# Altium integrated library Lattice FPGA EC.IntLib: 200 symbols (part 26 of 28)
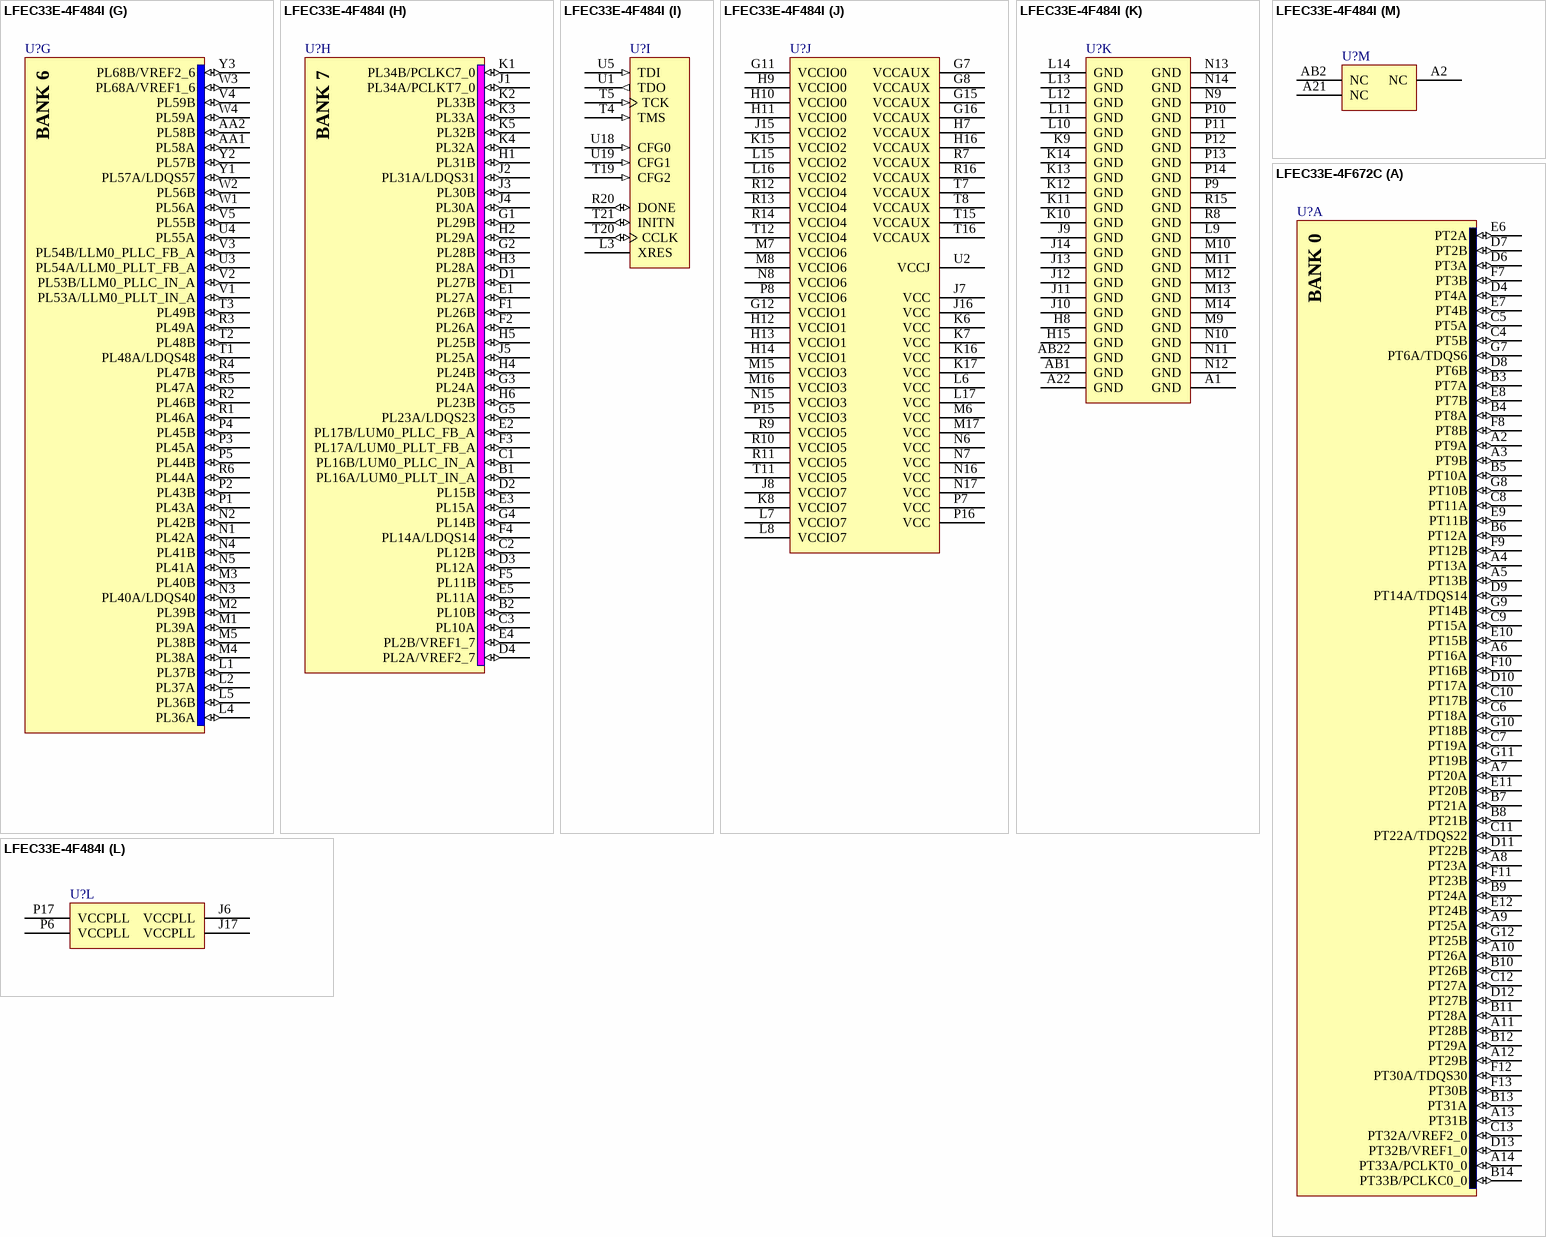
[diagram p255: symbols LFEC33E-4F484I to LFEC33E-4F672C]

## LFEC33E-4F484I
designator U?
EC 1.2V FPGA, 360 I/Os, 4 PLLs, 32.8K LUTs, 484-Pin fpBGA, Speed Grade 4, Industrial Grade; DatasheetVersion: ver2.2, Mar-2006; PackageVersion: ver02.8, Jul-2011; PackageReference: fpBGA484; PackageDescription: 484-Ball Fine Pitch Ball Grid Array (fpBGA484); Code_IPC: BGA100P22X22-484; ComponentLink1Description: Manufacturer URL; ComponentLink1URL: http://www.latticesemi.com/; ComponentLink2Description: Datasheet; ComponentLink2URL: http://www.latticesemi.com/lit/docs/datasheets/fpga/ecp_ec_datasheet.pdf; ComponentLink3Description: Package Specification; ComponentLink3URL: http://www.latticesemi.com/lit/docs/package/pkg.pdf
footprint fpBGA484 (BGA, 484-Leads, Body 23x23mm, Pitch 1mm)
part A pins: A3 PT13B (io), A4 PT17B (io), A5 PT25B (io), A6 PT27A (io), A7 PT27B (io), A8 PT29A (io), A9 PT29B (io), A10 PT33A/PCLKT0_0 (io), A11 PT33B/PCLKC0_0 (io), B3 PT13A (io), B4 PT17A (io), B5 PT15A (io), B6 PT25A (io), B7 PT26B (io), B8 PT26A (io), B9 PT30B (io), B10 PT30A/TDQS30 (io), B11 PT31B (io), C4 PT16B (io), C5 PT16A (io), C6 PT14A/TDQS14 (io), C7 PT18A (io), C8 PT21A (io), C9 PT21B (io), C10 PT28A (io), C11 PT31A (io), D5 PT12A (io), D6 PT15B (io), D7 PT19A (io), D8 PT18B (io), D9 PT20A (io), D10 PT23A (io), D11 PT28B (io), E6 PT14B (io), E7 PT10A (io), E8 PT11A (io), E9 PT22A/TDQS22 (io), E10 PT24A (io), E11 PT32A/VREF2_0 (io), E12 PT32B/VREF1_0 (io), F6 PT12B (io), F7 PT11B (io), F8 PT19B (io), F9 PT20B (io), F10 PT23B (io), G6 PT10B (io), G9 PT22B (io), G10 PT24B (io)
part B pins: A12 PT37B (io), A13 PT41B (io), A14 PT45A (io), A15 PT45B (io), A16 PT46A/TDQS46 (io), A17 PT47A (io), A18 PT48A (io), A19 PT49A (io), A20 PT53A (io), B12 PT37A (io), B13 PT41A (io), B14 PT42A (io), B15 PT46B (io), B16 PT47B (io), B17 PT48B (io), B18 PT49B (io), B19 PT53B (io), B20 PT55A (io), C12 PT34A (io), C13 PT40A (io), C14 PT42B (io), C15 PT43A (io), C16 PT54A/TDQS54 (io), C17 PT52A (io), C18 PT56A (io), C19 PT55B (io), D12 PT35A/VREF1_1 (io), D13 PT36A (io), D14 PT39A (io), D15 PT43B (io), D16 PT50A (io), D17 PT54B (io), D18 PT56B (io), E13 PT38B (io), E14 PT40B (io), E15 PT44A (io), E16 PT51A (io), E17 PT52B (io), F11 PT34B (io), F12 PT35B/VREF2_1 (io), F13 PT36B (io), F14 PT39B (io), F15 PT50B (io), F16 PT51B (io), F17 PT57A (io), G13 PT38A/TDQS38 (io), G14 PT44B (io), G17 PT57B (io)
part C pins: B21 PR11A (io), B22 PR11B (io), C20 PR13A (io), C21 PR13B (io), C22 PR17A/RUM0_PLLT_FB_A (io), D19 PR2A/VREF2_2 (io), D20 PR14A/RDQS14 (io), D21 PR17B/RUM0_PLLC_FB_A (io), D22 PR27A (io), E18 PR12A (io), E19 PR2B/VREF1_2 (io), E20 PR14B (io), E21 PR27B (io), E22 PR28A (io), F18 PR12B (io), F19 PR15A (io), F20 PR15B (io), F21 PR28B (io), F22 PR29A (io), G18 PR16A/RUM0_PLLT_IN_A (io), G19 PR16B/RUM0_PLLC_IN_A (io), G20 PR26A (io), G21 PR26B (io), G22 PR29B (io), H17 PR23B (io), H18 PR23A/RDQS23 (io), H19 PR25A (io), H20 PR24A (io), H21 PR33A (io), H22 PR33B (io), J18 PR25B (io), J19 PR24B (io), J20 PR31A/RDQS31 (io), J21 PR34A/PCLKT2_0 (io), J22 PR34B/PCLKC2_0 (io), K18 PR30A (io), K19 PR30B (io), K20 PR31B (io), L18 PR32A (io), L19 PR32B (io)
part D pins: AA21 PR59B (io), AA22 PR57A/RDQS57 (io), AB21 PR59A (io), K21 PR36A (io), K22 PR36B (io), L20 PR40A/RDQS40 (io), L21 PR39B (io), L22 PR37A (io), M18 PR38B (io), M19 PR38A (io), M20 PR39A (io), M21 PR40B (io), M22 PR37B (io), N18 PR41A (io), N19 PR41B (io), N20 PR45A (io), N21 PR42B (io), N22 PR42A (io), P18 PR44A (io), P19 PR44B (io), P20 PR45B (io), P21 PR43B (io), P22 PR43A (io), R17 PR49A (io), R18 PR48A/RDQS48 (io), R19 PR48B (io), R21 PR46B (io), R22 PR46A (io), T18 PR49B (io), T22 PR47A (io), U20 PR56A/RLM0_PLLT_IN_A (io), U21 PR53B/BUSY/SISPI (io), U22 PR47B (io), V18 PROGRAMN (in), V19 PR58A (io), V20 PR56B/RLM0_PLLC_IN_A (io), V21 PR54B/DI/CSSPIN (io), V22 PR53A/D7/SPID0 (io), W19 PR58B (io), W20 PR68B/VREF2_3 (io), W21 PR55B/RLM0_PLLC_FB_A (io), W22 PR54A/DOUT/CSON (io), Y20 PR68A/VREF1_3 (io), Y21 PR57B (io), Y22 PR55A/RLM0_PLLT_FB_A (io)
part E pins: AA12 PB37A/D2/SPID5 (io), AA13 PB41A (io), AA14 PB42A (io), AA15 PB46B (io), AA16 PB47B (io), AA17 PB48B (io), AA18 PB49B (io), AA19 PB53B (io), AA20 PB55A (io), AB12 PB37B/D1/SPID6 (io), AB13 PB41B/D6/SPID1 (io), AB14 PB45A (io), AB15 PB45B (io), AB16 PB46A/BDQS46 (io), AB17 PB47A (io), AB18 PB48A (io), AB19 PB49A (io), AB20 PB53A (io), T13 PB38A/BDQS38 (io), T14 PB44B (io), T17 PB57A (io), U11 PB34B/CS1N (io), U12 PB35B/CSN (io), U13 PB36B/D0/SPID7 (io), U14 PB39B/D4/SPID3 (io), U15 PB50B (io), U16 PB51B (io), U17 PB57B (io), V13 PB38B/D3/SPID4 (io), V14 PB40B/D5/SPID2 (io), V15 PB44A (io), V16 PB51A (io), V17 PB52B (io), W12 PB35A/VREF1_4 (io), W13 PB36A/VREF2_4 (io), W14 PB39A (io), W15 PB43B (io), W16 PB50A (io), W17 PB54B (io), W18 PB56B (io), Y12 PB34A/WRITEN (io), Y13 PB40A (io), Y14 PB42B (io), Y15 PB43A (io), Y16 PB54A/BDQS54 (io), Y17 PB52A (io), Y18 PB56A (io), Y19 PB55B (io)
part F pins: AA3 PB13A (io), AA4 PB17A (io), AA5 PB15A (io), AA6 PB25A (io), AA7 PB26B (io), AA8 PB26A (io), AA9 PB30B (io), AA10 PB30A/BDQS30 (io), AA11 PB31B (io), AB3 PB13B (io), AB4 PB17B (io), AB5 PB25B (io), AB6 PB27A (io), AB7 PB27B (io), AB8 PB29A (io), AB9 PB29B (io), AB10 PB33A/PCLKT5_0 (io), AB11 PB33B/PCLKC5_0 (io), T6 PB10B (io), T9 PB22B (io), T10 PB24B (io), U6 PB12B (io), U7 PB11B (io), U8 PB19B (io), U9 PB20B (io), U10 PB23B (io), V6 PB14B (io), V7 PB10A (io), V8 PB11A (io), V9 PB22A/BDQS22 (io), V10 PB24A (io), V11 PB32A/VREF2_5 (io), V12 PB32B/VREF1_5 (io), W5 PB12A (io), W6 PB15B (io), W7 PB19A (io), W8 PB18B (io), W9 PB20A (io), W10 PB23A (io), W11 PB28B (io), Y4 PB16B (io), Y5 PB16A (io), Y6 PB14A/BDQS14 (io), Y7 PB18A (io), Y8 PB21A (io), Y9 PB21B (io), Y10 PB28A (io), Y11 PB31A (io)
part G pins: AA1 PL58A (io), AA2 PL58B (io), L1 PL37B (io), L2 PL37A (io), L4 PL36A (io), L5 PL36B (io), M1 PL39A (io), M2 PL39B (io), M3 PL40B (io), M4 PL38A (io), M5 PL38B (io), N1 PL42A (io), N2 PL42B (io), N3 PL40A/LDQS40 (io), N4 PL41B (io), N5 PL41A (io), P1 PL43A (io), P2 PL43B (io), P3 PL45A (io), P4 PL45B (io), P5 PL44B (io), R1 PL46A (io), R2 PL46B (io), R3 PL49A (io), R4 PL47B (io), R5 PL47A (io), R6 PL44A (io), T1 PL48A/LDQS48 (io), T2 PL48B (io), T3 PL49B (io), U3 PL54A/LLM0_PLLT_FB_A (io), U4 PL55A (io), V1 PL53A/LLM0_PLLT_IN_A (io), V2 PL53B/LLM0_PLLC_IN_A (io), V3 PL54B/LLM0_PLLC_FB_A (io), V4 PL59B (io), V5 PL55B (io), W1 PL56A (io), W2 PL56B (io), W3 PL68A/VREF1_6 (io), W4 PL59A (io), Y1 PL57A/LDQS57 (io), Y2 PL57B (io), Y3 PL68B/VREF2_6 (io)
part H pins: B1 PL16A/LUM0_PLLT_IN_A (io), B2 PL10B (io), C1 PL16B/LUM0_PLLC_IN_A (io), C2 PL12B (io), C3 PL10A (io), D1 PL27B (io), D2 PL15B (io), D3 PL12A (io), D4 PL2A/VREF2_7 (io), E1 PL27A (io), E2 PL17B/LUM0_PLLC_FB_A (io), E3 PL15A (io), E4 PL2B/VREF1_7 (io), E5 PL11A (io), F1 PL26B (io), F2 PL26A (io), F3 PL17A/LUM0_PLLT_FB_A (io), F4 PL14A/LDQS14 (io), F5 PL11B (io), G1 PL29B (io), G2 PL28B (io), G3 PL24A (io), G4 PL14B (io), G5 PL23A/LDQS23 (io), H1 PL31B (io), H2 PL29A (io), H3 PL28A (io), H4 PL24B (io), H5 PL25B (io), H6 PL23B (io), J1 PL34A/PCLKT7_0 (io), J2 PL31A/LDQS31 (io), J3 PL30B (io), J4 PL30A (io), J5 PL25A (io), K1 PL34B/PCLKC7_0 (io), K2 PL33B (io), K3 PL33A (io), K4 PL32A (io), K5 PL32B (io)
part I pins: L3 XRES, R20 DONE (io), T4 TMS (in), T5 TCK (in), T19 CFG2 (in), T20 CCLK (io), T21 INITN (io), U1 TDO (out), U5 TDI (in), U18 CFG0 (in), U19 CFG1 (in)
part J pins: G7 VCCAUX (power), G8 VCCAUX (power), G11 VCCIO0 (power), G12 VCCIO1 (power), G15 VCCAUX (power), G16 VCCAUX (power), H7 VCCAUX (power), H9 VCCIO0 (power), H10 VCCIO0 (power), H11 VCCIO0 (power), H12 VCCIO1 (power), H13 VCCIO1 (power), H14 VCCIO1 (power), H16 VCCAUX (power), J7 VCC (power), J8 VCCIO7 (power), J15 VCCIO2 (power), J16 VCC (power), K6 VCC (power), K7 VCC (power), K8 VCCIO7 (power), K15 VCCIO2 (power), K16 VCC (power), K17 VCC (power), L6 VCC (power), L7 VCCIO7 (power), L8 VCCIO7 (power), L15 VCCIO2 (power), L16 VCCIO2 (power), L17 VCC (power), M6 VCC (power), M7 VCCIO6 (power), M8 VCCIO6 (power), M15 VCCIO3 (power), M16 VCCIO3 (power), M17 VCC (power), N6 VCC (power), N7 VCC (power), N8 VCCIO6 (power), N15 VCCIO3 (power), N16 VCC (power), N17 VCC (power), P7 VCC (power), P8 VCCIO6 (power), P15 VCCIO3 (power), P16 VCC (power), R7 VCCAUX (power), R9 VCCIO5 (power), R10 VCCIO5 (power), R11 VCCIO5 (power), R12 VCCIO4 (power), R13 VCCIO4 (power), R14 VCCIO4 (power), R16 VCCAUX (power), T7 VCCAUX (power), T8 VCCAUX (power), T11 VCCIO5 (power), T12 VCCIO4 (power), T15 VCCAUX (power), T16 VCCAUX (power), U2 VCCJ (power)
part K pins: A1 GND (power), A22 GND (power), AB1 GND (power), AB22 GND (power), H8 GND (power), H15 GND (power), J9 GND (power), J10 GND (power), J11 GND (power), J12 GND (power), J13 GND (power), J14 GND (power), K9 GND (power), K10 GND (power), K11 GND (power), K12 GND (power), K13 GND (power), K14 GND (power), L9 GND (power), L10 GND (power), L11 GND (power), L12 GND (power), L13 GND (power), L14 GND (power), M9 GND (power), M10 GND (power), M11 GND (power), M12 GND (power), M13 GND (power), M14 GND (power), N9 GND (power), N10 GND (power), N11 GND (power), N12 GND (power), N13 GND (power), N14 GND (power), P9 GND (power), P10 GND (power), P11 GND (power), P12 GND (power), P13 GND (power), P14 GND (power), R8 GND (power), R15 GND (power)
part L pins: J6 VCCPLL (power), J17 VCCPLL (power), P6 VCCPLL (power), P17 VCCPLL (power)
part M pins: A2 NC, A21 NC, AB2 NC
part A text: BANK 0
part B text: BANK 1
part C text: BANK 2
part D text: BANK 3
part E text: BANK 4
part F text: BANK 5
part G text: BANK 6
part H text: BANK 7

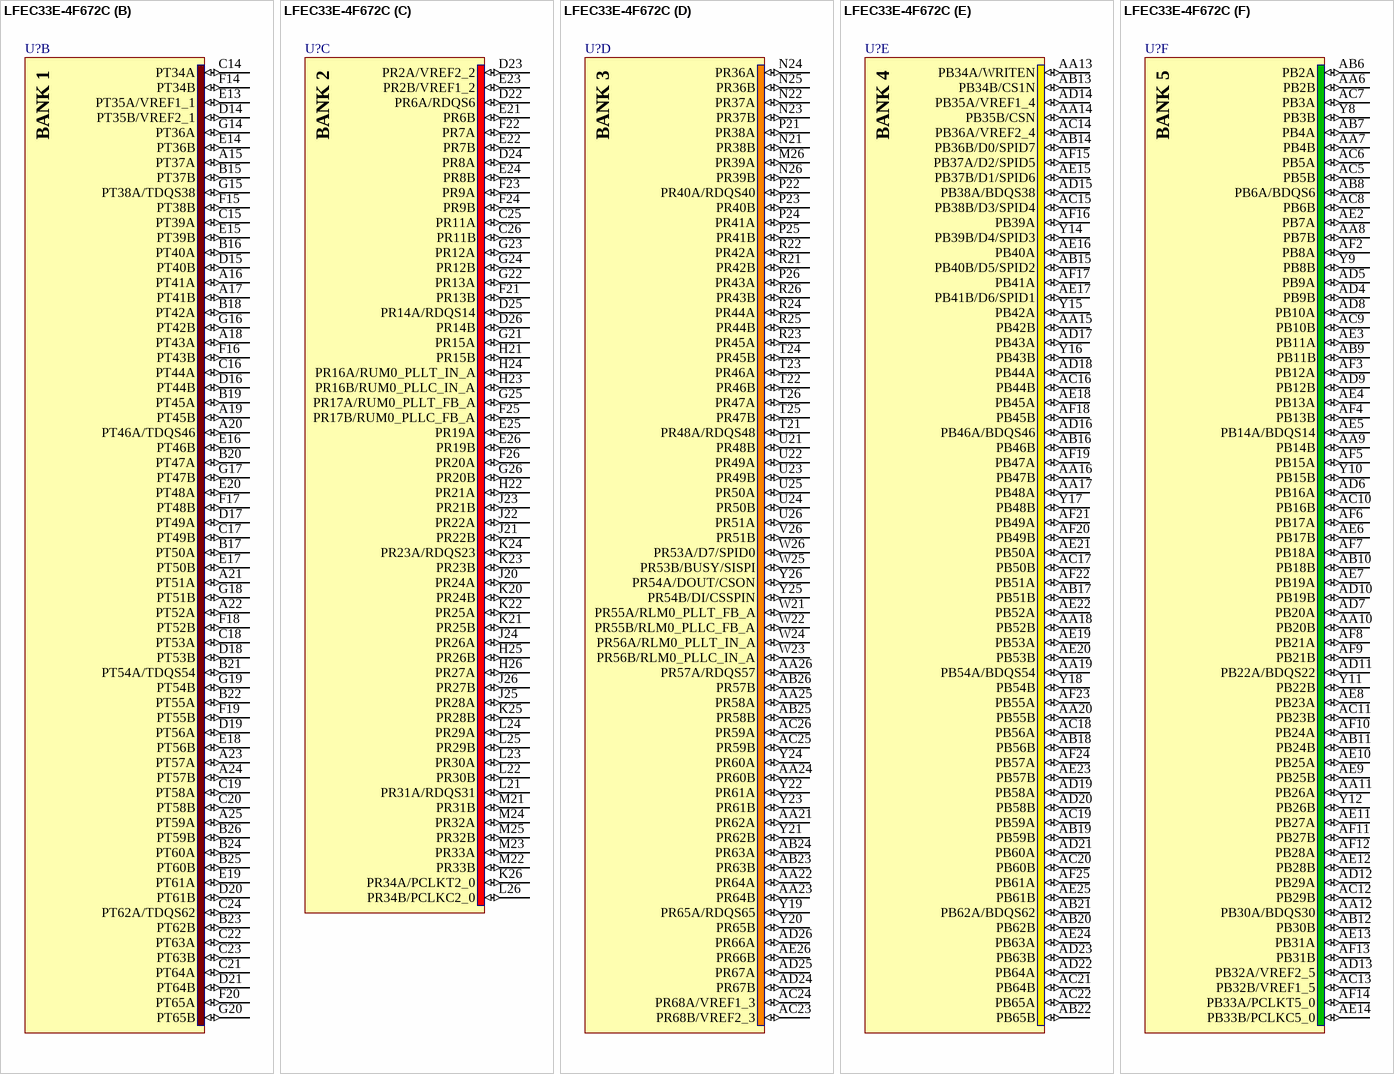
[diagram p211: symbol LFEC33E-4F672C]

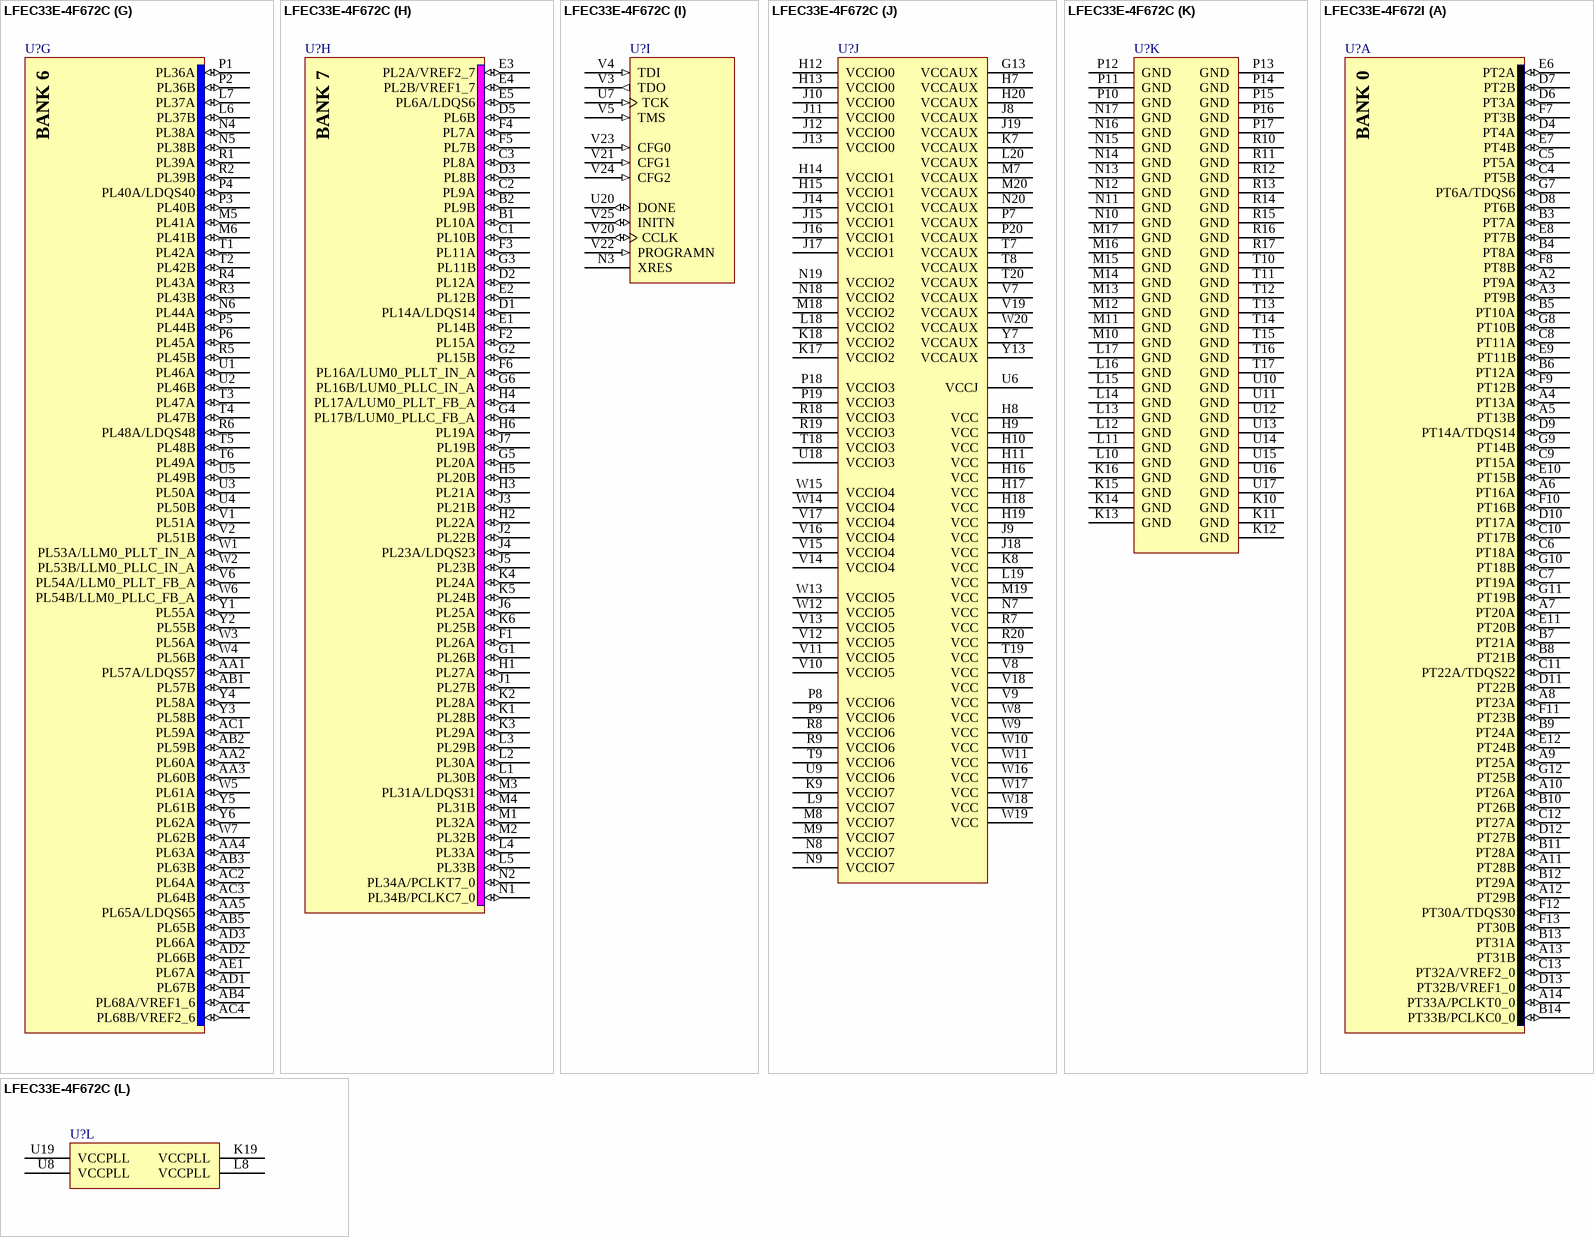
[diagram p212: symbols LFEC33E-4F672C to LFEC33E-4F672I]

## LFEC33E-4F672C
designator U?
EC 1.2V FPGA, 496 I/Os, 4 PLLs, 32.8K LUTs, 672-Pin fpBGA, Speed Grade 4, Commercial Grade; DatasheetVersion: ver2.2, Mar-2006; PackageVersion: ver02.8, Jul-2011; PackageReference: fpBGA672; PackageDescription: 672-Ball Fine Pitch Ball Grid Array (fpBGA672); ComponentLink1Description: Manufacturer URL; ComponentLink1URL: http://www.latticesemi.com/; ComponentLink2Description: Datasheet; ComponentLink2URL: http://www.latticesemi.com/lit/docs/datasheets/fpga/ecp_ec_datasheet.pdf; ComponentLink3Description: Package Specification; ComponentLink3URL: http://www.latticesemi.com/lit/docs/package/pkg.pdf
footprint fpBGA672 (BGA, 672-Leads, Body 27x27mm, Pitch 1mm)
part A pins: A2 PT9A (io), A3 PT9B (io), A4 PT13A (io), A5 PT13B (io), A6 PT16A (io), A7 PT20A (io), A8 PT23A (io), A9 PT25A (io), A10 PT26A (io), A11 PT28B (io), A12 PT29B (io), A13 PT31B (io), A14 PT33A/PCLKT0_0 (io), B3 PT7A (io), B4 PT8A (io), B5 PT10A (io), B6 PT12A (io), B7 PT21A (io), B8 PT21B (io), B9 PT24A (io), B10 PT26B (io), B11 PT28A (io), B12 PT29A (io), B13 PT31A (io), B14 PT33B/PCLKC0_0 (io), C4 PT5B (io), C5 PT5A (io), C6 PT18A (io), C7 PT19A (io), C8 PT11A (io), C9 PT15A (io), C10 PT17B (io), C11 PT22A/TDQS22 (io), C12 PT27A (io), C13 PT32A/VREF2_0 (io), D4 PT4A (io), D6 PT3A (io), D7 PT2B (io), D8 PT6B (io), D9 PT14A/TDQS14 (io), D10 PT17A (io), D11 PT22B (io), D12 PT27B (io), D13 PT32B/VREF1_0 (io), E6 PT2A (io), E7 PT4B (io), E8 PT7B (io), E9 PT11B (io), E10 PT15B (io), E11 PT20B (io), E12 PT24B (io), F7 PT3B (io), F8 PT8B (io), F9 PT12B (io), F10 PT16B (io), F11 PT23B (io), F12 PT30A/TDQS30 (io), F13 PT30B (io), G7 PT6A/TDQS6 (io), G8 PT10B (io), G9 PT14B (io), G10 PT18B (io), G11 PT19B (io), G12 PT25B (io)
part B pins: A15 PT37A (io), A16 PT41A (io), A17 PT41B (io), A18 PT43A (io), A19 PT45B (io), A20 PT46A/TDQS46 (io), A21 PT51A (io), A22 PT52A (io), A23 PT57A (io), A24 PT57B (io), A25 PT59A (io), B15 PT37B (io), B16 PT40A (io), B17 PT50A (io), B18 PT42A (io), B19 PT45A (io), B20 PT47A (io), B21 PT54A/TDQS54 (io), B22 PT55A (io), B23 PT62B (io), B24 PT60A (io), B25 PT60B (io), B26 PT59B (io), C14 PT34A (io), C15 PT39A (io), C16 PT44A (io), C17 PT49B (io), C18 PT53A (io), C19 PT58A (io), C20 PT58B (io), C21 PT64A (io), C22 PT63A (io), C23 PT63B (io), C24 PT62A/TDQS62 (io), D14 PT35B/VREF2_1 (io), D15 PT40B (io), D16 PT44B (io), D17 PT49A (io), D18 PT53B (io), D19 PT56A (io), D20 PT61B (io), D21 PT64B (io), E13 PT35A/VREF1_1 (io), E14 PT36B (io), E15 PT39B (io), E16 PT46B (io), E17 PT50B (io), E18 PT56B (io), E19 PT61A (io), E20 PT48A (io), F14 PT34B (io), F15 PT38B (io), F16 PT43B (io), F17 PT48B (io), F18 PT52B (io), F19 PT55B (io), F20 PT65A (io), G14 PT36A (io), G15 PT38A/TDQS38 (io), G16 PT42B (io), G17 PT47B (io), G18 PT51B (io), G19 PT54B (io), G20 PT65B (io)
part C pins: C25 PR11A (io), C26 PR11B (io), D22 PR6A/RDQS6 (io), D23 PR2A/VREF2_2 (io), D24 PR8A (io), D25 PR14A/RDQS14 (io), D26 PR14B (io), E21 PR6B (io), E22 PR7B (io), E23 PR2B/VREF1_2 (io), E24 PR8B (io), E25 PR19A (io), E26 PR19B (io), F21 PR13B (io), F22 PR7A (io), F23 PR9A (io), F24 PR9B (io), F25 PR17B/RUM0_PLLC_FB_A (io), F26 PR20A (io), G21 PR15A (io), G22 PR13A (io), G23 PR12A (io), G24 PR12B (io), G25 PR17A/RUM0_PLLT_FB_A (io), G26 PR20B (io), H21 PR15B (io), H22 PR21A (io), H23 PR16B/RUM0_PLLC_IN_A (io), H24 PR16A/RUM0_PLLT_IN_A (io), H25 PR26B (io), H26 PR27A (io), J20 PR24A (io), J21 PR22B (io), J22 PR22A (io), J23 PR21B (io), J24 PR26A (io), J25 PR28A (io), J26 PR27B (io), K20 PR24B (io), K21 PR25B (io), K22 PR25A (io), K23 PR23B (io), K24 PR23A/RDQS23 (io), K25 PR28B (io), K26 PR34A/PCLKT2_0 (io), L21 PR31A/RDQS31 (io), L22 PR30B (io), L23 PR30A (io), L24 PR29A (io), L25 PR29B (io), L26 PR34B/PCLKC2_0 (io), M21 PR31B (io), M22 PR33B (io), M23 PR33A (io), M24 PR32A (io), M25 PR32B (io)
part D pins: AA21 PR62A (io), AA22 PR64A (io), AA23 PR64B (io), AA24 PR60B (io), AA25 PR58A (io), AA26 PR57A/RDQS57 (io), AB23 PR63B (io), AB24 PR63A (io), AB25 PR58B (io), AB26 PR57B (io), AC23 PR68B/VREF2_3 (io), AC24 PR68A/VREF1_3 (io), AC25 PR59B (io), AC26 PR59A (io), AD24 PR67B (io), AD25 PR67A (io), AD26 PR66A (io), AE26 PR66B (io), M26 PR39A (io), N21 PR38B (io), N22 PR37A (io), N23 PR37B (io), N24 PR36A (io), N25 PR36B (io), N26 PR39B (io), P21 PR38A (io), P22 PR40A/RDQS40 (io), P23 PR40B (io), P24 PR41A (io), P25 PR41B (io), P26 PR43A (io), R21 PR42B (io), R22 PR42A (io), R23 PR45A (io), R24 PR44A (io), R25 PR44B (io), R26 PR43B (io), T21 PR48A/RDQS48 (io), T22 PR46B (io), T23 PR46A (io), T24 PR45B (io), T25 PR47B (io), T26 PR47A (io), U21 PR48B (io), U22 PR49A (io), U23 PR49B (io), U24 PR50B (io), U25 PR50A (io), U26 PR51A (io), V26 PR51B (io), W21 PR55A/RLM0_PLLT_FB_A (io), W22 PR55B/RLM0_PLLC_FB_A (io), W23 PR56B/RLM0_PLLC_IN_A (io), W24 PR56A/RLM0_PLLT_IN_A (io), W25 PR53B/BUSY/SISPI (io), W26 PR53A/D7/SPID0 (io), Y19 PR65A/RDQS65 (io), Y20 PR65B (io), Y21 PR62B (io), Y22 PR61A (io), Y23 PR61B (io), Y24 PR60A (io), Y25 PR54B/DI/CSSPIN (io), Y26 PR54A/DOUT/CSON (io)
part E pins: AA13 PB34A/WRITEN (io), AA14 PB35B/CSN (io), AA15 PB42B (io), AA16 PB47B (io), AA17 PB48A (io), AA18 PB52B (io), AA19 PB54A/BDQS54 (io), AA20 PB55B (io), AB13 PB34B/CS1N (io), AB14 PB36B/D0/SPID7 (io), AB15 PB40B/D5/SPID2 (io), AB16 PB46B (io), AB17 PB51B (io), AB18 PB56B (io), AB19 PB59B (io), AB20 PB62B (io), AB21 PB62A/BDQS62 (io), AB22 PB65B (io), AC14 PB36A/VREF2_4 (io), AC15 PB38B/D3/SPID4 (io), AC16 PB44B (io), AC17 PB50B (io), AC18 PB56A (io), AC19 PB59A (io), AC20 PB60B (io), AC21 PB64B (io), AC22 PB65A (io), AD14 PB35A/VREF1_4 (io), AD15 PB38A/BDQS38 (io), AD16 PB46A/BDQS46 (io), AD17 PB43A (io), AD18 PB44A (io), AD19 PB58A (io), AD20 PB58B (io), AD21 PB60A (io), AD22 PB64A (io), AD23 PB63B (io), AE15 PB37B/D1/SPID6 (io), AE16 PB40A (io), AE17 PB41B/D6/SPID1 (io), AE18 PB45A (io), AE19 PB53A (io), AE20 PB53B (io), AE21 PB50A (io), AE22 PB52A (io), AE23 PB57B (io), AE24 PB63A (io), AE25 PB61B (io), AF15 PB37A/D2/SPID5 (io), AF16 PB39A (io), AF17 PB41A (io), AF18 PB45B (io), AF19 PB47A (io), AF20 PB49B (io), AF21 PB49A (io), AF22 PB51A (io), AF23 PB55A (io), AF24 PB57A (io), AF25 PB61A (io), Y14 PB39B/D4/SPID3 (io), Y15 PB42A (io), Y16 PB43B (io), Y17 PB48B (io), Y18 PB54B (io)
part F pins: AA6 PB2B (io), AA7 PB4B (io), AA8 PB7B (io), AA9 PB14B (io), AA10 PB20B (io), AA11 PB26A (io), AA12 PB30A/BDQS30 (io), AB6 PB2A (io), AB7 PB4A (io), AB8 PB6A/BDQS6 (io), AB9 PB11B (io), AB10 PB18B (io), AB11 PB24B (io), AB12 PB30B (io), AC5 PB5B (io), AC6 PB5A (io), AC7 PB3A (io), AC8 PB6B (io), AC9 PB10B (io), AC10 PB16B (io), AC11 PB23B (io), AC12 PB29B (io), AC13 PB32B/VREF1_5 (io), AD4 PB9B (io), AD5 PB9A (io), AD6 PB16A (io), AD7 PB20A (io), AD8 PB10A (io), AD9 PB12B (io), AD10 PB19B (io), AD11 PB22A/BDQS22 (io), AD12 PB29A (io), AD13 PB32A/VREF2_5 (io), AE2 PB7A (io), AE3 PB11A (io), AE4 PB13A (io), AE5 PB14A/BDQS14 (io), AE6 PB17B (io), AE7 PB19A (io), AE8 PB23A (io), AE9 PB25B (io), AE10 PB25A (io), AE11 PB27A (io), AE12 PB28B (io), AE13 PB31A (io), AE14 PB33B/PCLKC5_0 (io), AF2 PB8A (io), AF3 PB12A (io), AF4 PB13B (io), AF5 PB15A (io), AF6 PB17A (io), AF7 PB18A (io), AF8 PB21A (io), AF9 PB21B (io), AF10 PB24A (io), AF11 PB27B (io), AF12 PB28A (io), AF13 PB31B (io), AF14 PB33A/PCLKT5_0 (io), Y8 PB3B (io), Y9 PB8B (io), Y10 PB15B (io), Y11 PB22B (io), Y12 PB26B (io)
part G pins: AA1 PL57A/LDQS57 (io), AA2 PL60A (io), AA3 PL60B (io), AA4 PL63A (io), AA5 PL65A/LDQS65 (io), AB1 PL57B (io), AB2 PL59B (io), AB3 PL63B (io), AB4 PL68A/VREF1_6 (io), AB5 PL65B (io), AC1 PL59A (io), AC2 PL64A (io), AC3 PL64B (io), AC4 PL68B/VREF2_6 (io), AD1 PL67B (io), AD2 PL66B (io), AD3 PL66A (io), AE1 PL67A (io), L6 PL37B (io), L7 PL37A (io), M5 PL41A (io), M6 PL41B (io), N4 PL38A (io), N5 PL38B (io), N6 PL44A (io), P1 PL36A (io), P2 PL36B (io), P3 PL40B (io), P4 PL40A/LDQS40 (io), P5 PL44B (io), P6 PL45A (io), R1 PL39A (io), R2 PL39B (io), R3 PL43B (io), R4 PL43A (io), R5 PL45B (io), R6 PL48A/LDQS48 (io), T1 PL42A (io), T2 PL42B (io), T3 PL47A (io), T4 PL47B (io), T5 PL48B (io), T6 PL49A (io), U1 PL46A (io), U2 PL46B (io), U3 PL50A (io), U4 PL50B (io), U5 PL49B (io), V1 PL51A (io), V2 PL51B (io), V6 PL54A/LLM0_PLLT_FB_A (io), W1 PL53A/LLM0_PLLT_IN_A (io), W2 PL53B/LLM0_PLLC_IN_A (io), W3 PL56A (io), W4 PL56B (io), W5 PL61A (io), W6 PL54B/LLM0_PLLC_FB_A (io), W7 PL62B (io), Y1 PL55A (io), Y2 PL55B (io), Y3 PL58B (io), Y4 PL58A (io), Y5 PL61B (io), Y6 PL62A (io)
part H pins: B1 PL10A (io), B2 PL9B (io), C1 PL10B (io), C2 PL9A (io), C3 PL8A (io), D1 PL14A/LDQS14 (io), D2 PL12A (io), D3 PL8B (io), D5 PL6B (io), E1 PL14B (io), E2 PL12B (io), E3 PL2A/VREF2_7 (io), E4 PL2B/VREF1_7 (io), E5 PL6A/LDQS6 (io), F1 PL26A (io), F2 PL15A (io), F3 PL11A (io), F4 PL7A (io), F5 PL7B (io), F6 PL16A/LUM0_PLLT_IN_A (io), G1 PL26B (io), G2 PL15B (io), G3 PL11B (io), G4 PL17B/LUM0_PLLC_FB_A (io), G5 PL20A (io), G6 PL16B/LUM0_PLLC_IN_A (io), H1 PL27A (io), H2 PL22A (io), H3 PL21A (io), H4 PL17A/LUM0_PLLT_FB_A (io), H5 PL20B (io), H6 PL19A (io), J1 PL27B (io), J2 PL22B (io), J3 PL21B (io), J4 PL23A/LDQS23 (io), J5 PL23B (io), J6 PL25A (io), J7 PL19B (io), K1 PL28B (io), K2 PL28A (io), K3 PL29A (io), K4 PL24A (io), K5 PL24B (io), K6 PL25B (io), L1 PL30B (io), L2 PL30A (io), L3 PL29B (io), L4 PL33A (io), L5 PL33B (io), M1 PL32A (io), M2 PL32B (io), M3 PL31A/LDQS31 (io), M4 PL31B (io), N1 PL34B/PCLKC7_0 (io), N2 PL34A/PCLKT7_0 (io)
part I pins: N3 XRES, U7 TCK (in), U20 DONE (io), V3 TDO (out), V4 TDI (in), V5 TMS (in), V20 CCLK (io), V21 CFG1 (in), V22 PROGRAMN (in), V23 CFG0 (in), V24 CFG2 (in), V25 INITN (io)
part J pins: G13 VCCAUX (power), H7 VCCAUX (power), H8 VCC (power), H9 VCC (power), H10 VCC (power), H11 VCC (power), H12 VCCIO0 (power), H13 VCCIO0 (power), H14 VCCIO1 (power), H15 VCCIO1 (power), H16 VCC (power), H17 VCC (power), H18 VCC (power), H19 VCC (power), H20 VCCAUX (power), J8 VCCAUX (power), J9 VCC (power), J10 VCCIO0 (power), J11 VCCIO0 (power), J12 VCCIO0 (power), J13 VCCIO0 (power), J14 VCCIO1 (power), J15 VCCIO1 (power), J16 VCCIO1 (power), J17 VCCIO1 (power), J18 VCC (power), J19 VCCAUX (power), K7 VCCAUX (power), K8 VCC (power), K9 VCCIO7 (power), K17 VCCIO2 (power), K18 VCCIO2 (power), L9 VCCIO7 (power), L18 VCCIO2 (power), L19 VCC (power), L20 VCCAUX (power), M7 VCCAUX (power), M8 VCCIO7 (power), M9 VCCIO7 (power), M18 VCCIO2 (power), M19 VCC (power), M20 VCCAUX (power), N7 VCC (power), N8 VCCIO7 (power), N9 VCCIO7 (power), N18 VCCIO2 (power), N19 VCCIO2 (power), N20 VCCAUX (power), P7 VCCAUX (power), P8 VCCIO6 (power), P9 VCCIO6 (power), P18 VCCIO3 (power), P19 VCCIO3 (power), P20 VCCAUX (power), R7 VCC (power), R8 VCCIO6 (power), R9 VCCIO6 (power), R18 VCCIO3 (power), R19 VCCIO3 (power), R20 VCC (power), T7 VCCAUX (power), T8 VCCAUX (power), T9 VCCIO6 (power), T18 VCCIO3 (power), T19 VCC (power), T20 VCCAUX (power), U6 VCCJ (power), U9 VCCIO6 (power), U18 VCCIO3 (power), V7 VCCAUX (power), V8 VCC (power), V9 VCC (power), V10 VCCIO5 (power), V11 VCCIO5 (power), V12 VCCIO5 (power), V13 VCCIO5 (power), V14 VCCIO4 (power), V15 VCCIO4 (power), V16 VCCIO4 (power), V17 VCCIO4 (power), V18 VCC (power), V19 VCCAUX (power), W8 VCC (power), W9 VCC (power), W10 VCC (power), W11 VCC (power), W12 VCCIO5 (power), W13 VCCIO5 (power), W14 VCCIO4 (power), W15 VCCIO4 (power), W16 VCC (power), W17 VCC (power), W18 VCC (power), W19 VCC (power), W20 VCCAUX (power), Y7 VCCAUX (power), Y13 VCCAUX (power)
part K pins: K10 GND (power), K11 GND (power), K12 GND (power), K13 GND (power), K14 GND (power), K15 GND (power), K16 GND (power), L10 GND (power), L11 GND (power), L12 GND (power), L13 GND (power), L14 GND (power), L15 GND (power), L16 GND (power), L17 GND (power), M10 GND (power), M11 GND (power), M12 GND (power), M13 GND (power), M14 GND (power), M15 GND (power), M16 GND (power), M17 GND (power), N10 GND (power), N11 GND (power), N12 GND (power), N13 GND (power), N14 GND (power), N15 GND (power), N16 GND (power), N17 GND (power), P10 GND (power), P11 GND (power), P12 GND (power), P13 GND (power), P14 GND (power), P15 GND (power), P16 GND (power), P17 GND (power), R10 GND (power), R11 GND (power), R12 GND (power), R13 GND (power), R14 GND (power), R15 GND (power), R16 GND (power), R17 GND (power), T10 GND (power), T11 GND (power), T12 GND (power), T13 GND (power), T14 GND (power), T15 GND (power), T16 GND (power), T17 GND (power), U10 GND (power), U11 GND (power), U12 GND (power), U13 GND (power), U14 GND (power), U15 GND (power), U16 GND (power), U17 GND (power)
part L pins: K19 VCCPLL (power), L8 VCCPLL (power), U8 VCCPLL (power), U19 VCCPLL (power)
part A text: BANK 0
part B text: BANK 1
part C text: BANK 2
part D text: BANK 3
part E text: BANK 4
part F text: BANK 5
part G text: BANK 6
part H text: BANK 7

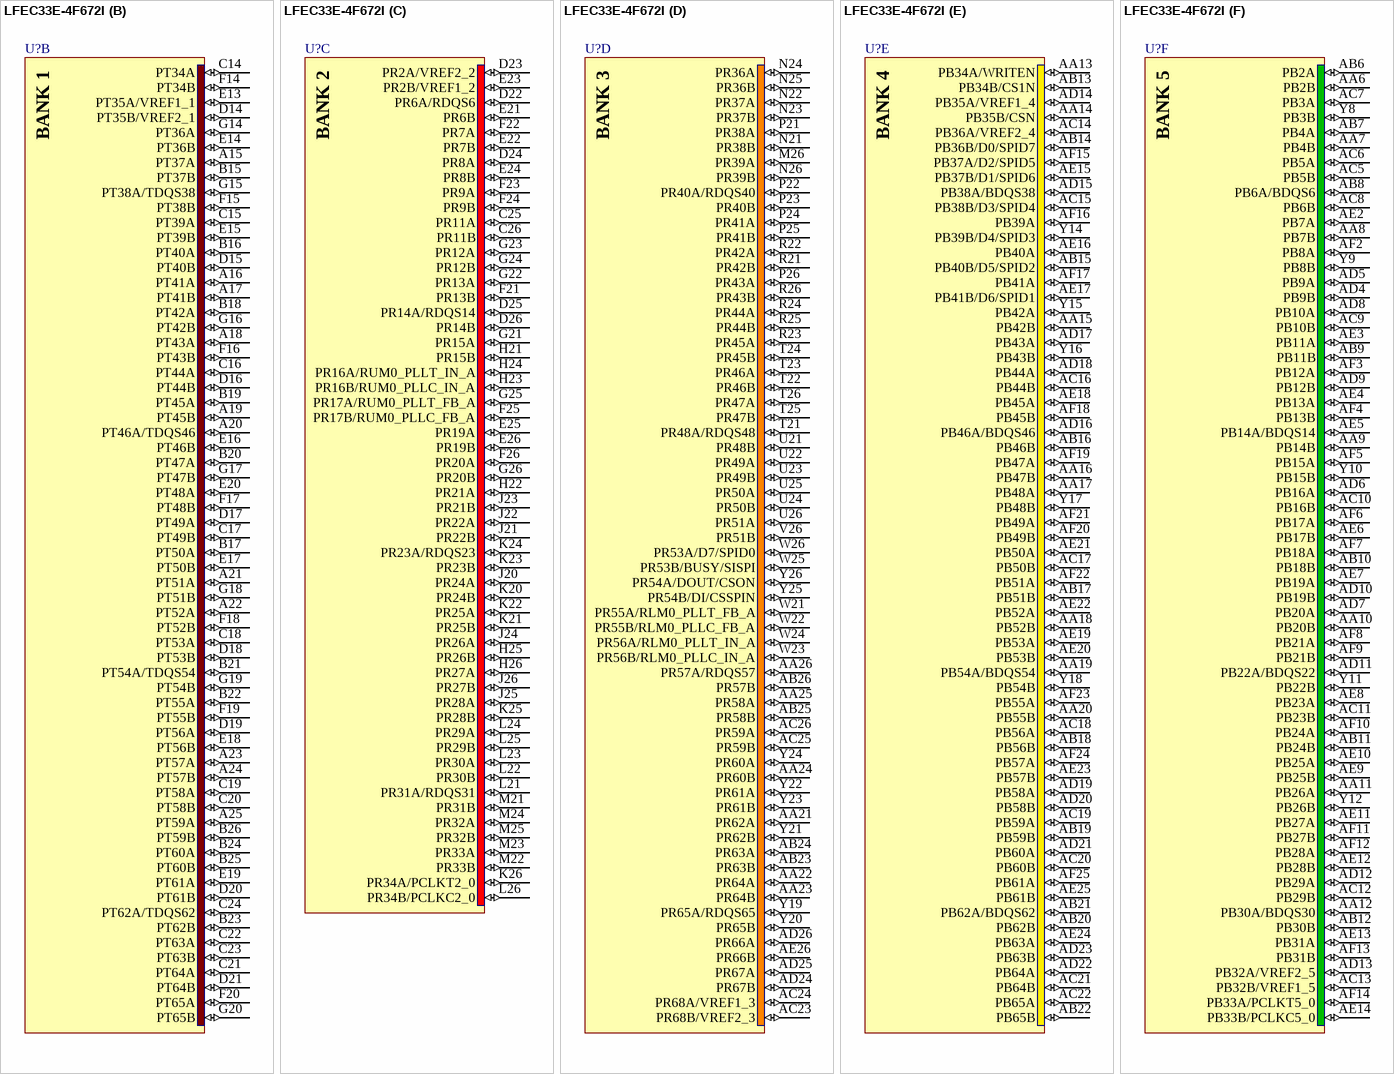
[diagram p213: symbol LFEC33E-4F672I]

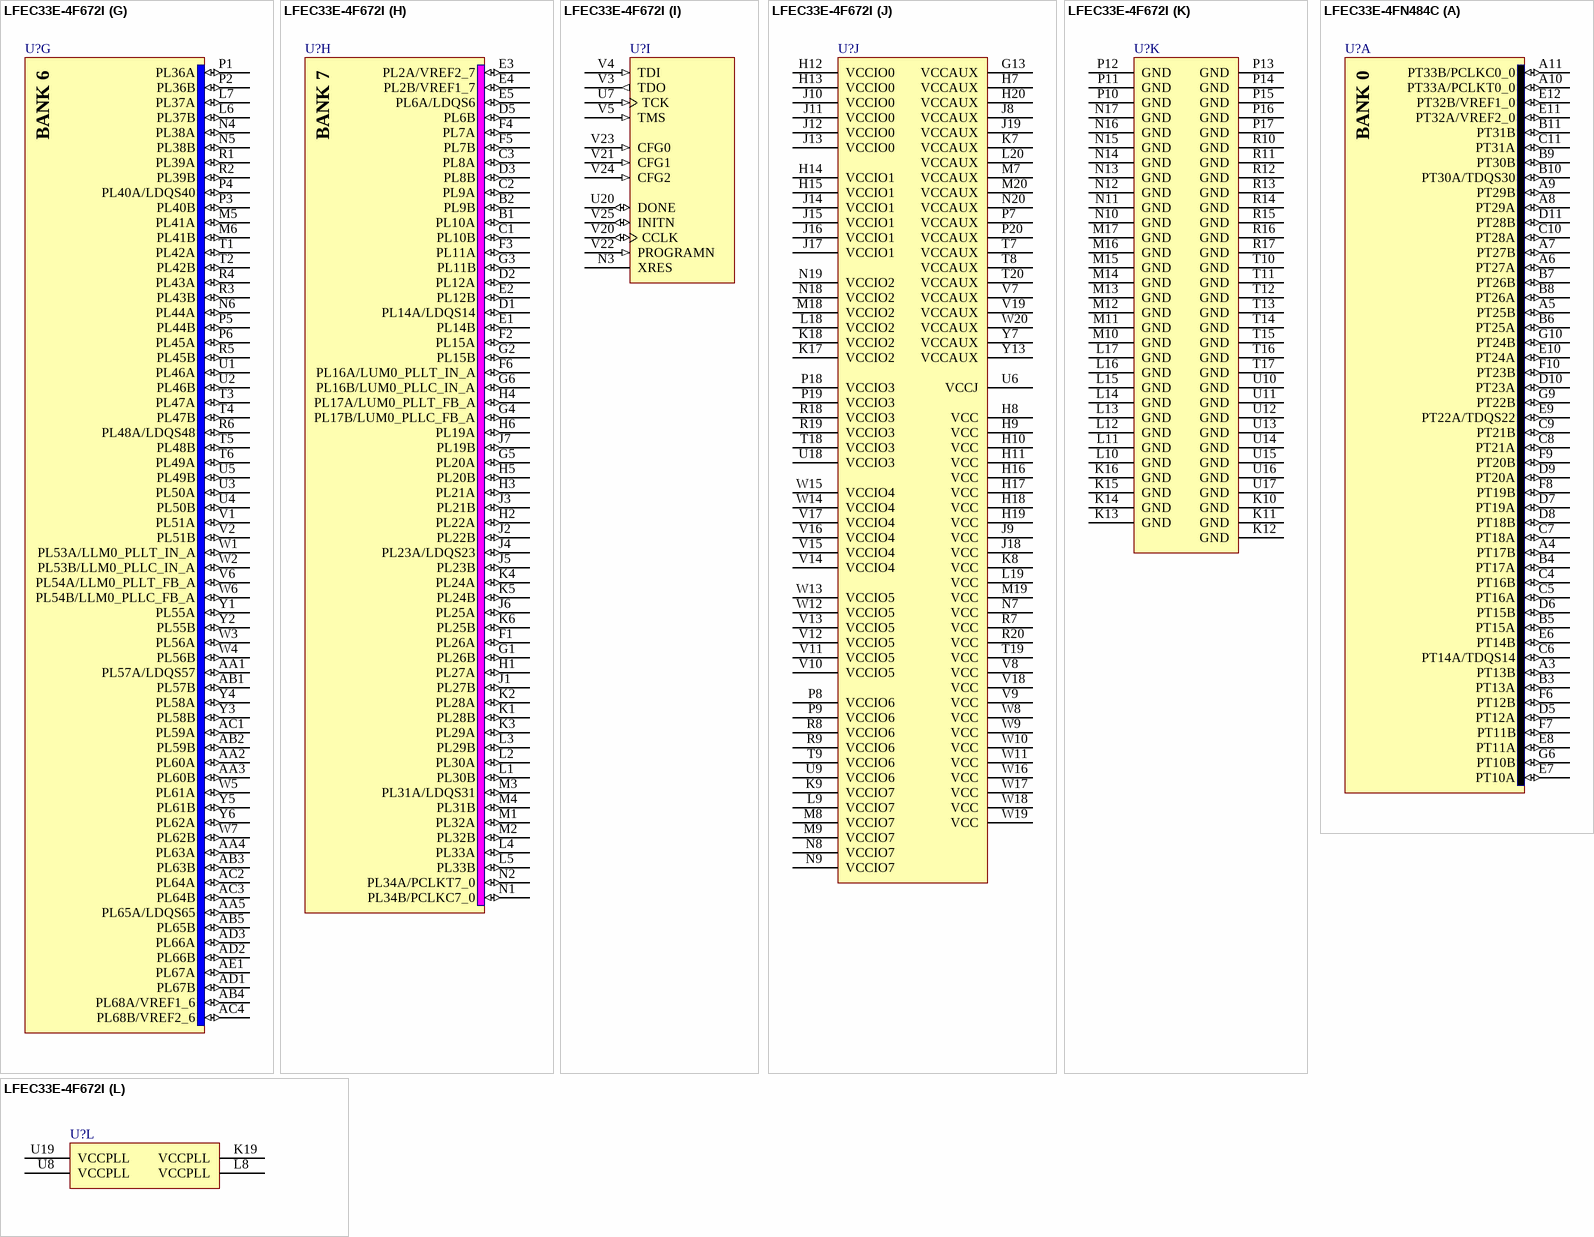
[diagram p214: symbols LFEC33E-4F672I to LFEC33E-4FN484C]

## LFEC33E-4F672I
designator U?
EC 1.2V FPGA, 496 I/Os, 4 PLLs, 32.8K LUTs, 672-Pin fpBGA, Speed Grade 4, Industrial Grade; DatasheetVersion: ver2.2, Mar-2006; PackageVersion: ver02.8, Jul-2011; PackageReference: fpBGA672; PackageDescription: 672-Ball Fine Pitch Ball Grid Array (fpBGA672); ComponentLink1Description: Manufacturer URL; ComponentLink1URL: http://www.latticesemi.com/; ComponentLink2Description: Datasheet; ComponentLink2URL: http://www.latticesemi.com/lit/docs/datasheets/fpga/ecp_ec_datasheet.pdf; ComponentLink3Description: Package Specification; ComponentLink3URL: http://www.latticesemi.com/lit/docs/package/pkg.pdf
footprint fpBGA672 (BGA, 672-Leads, Body 27x27mm, Pitch 1mm)
part A pins: A2 PT9A (io), A3 PT9B (io), A4 PT13A (io), A5 PT13B (io), A6 PT16A (io), A7 PT20A (io), A8 PT23A (io), A9 PT25A (io), A10 PT26A (io), A11 PT28B (io), A12 PT29B (io), A13 PT31B (io), A14 PT33A/PCLKT0_0 (io), B3 PT7A (io), B4 PT8A (io), B5 PT10A (io), B6 PT12A (io), B7 PT21A (io), B8 PT21B (io), B9 PT24A (io), B10 PT26B (io), B11 PT28A (io), B12 PT29A (io), B13 PT31A (io), B14 PT33B/PCLKC0_0 (io), C4 PT5B (io), C5 PT5A (io), C6 PT18A (io), C7 PT19A (io), C8 PT11A (io), C9 PT15A (io), C10 PT17B (io), C11 PT22A/TDQS22 (io), C12 PT27A (io), C13 PT32A/VREF2_0 (io), D4 PT4A (io), D6 PT3A (io), D7 PT2B (io), D8 PT6B (io), D9 PT14A/TDQS14 (io), D10 PT17A (io), D11 PT22B (io), D12 PT27B (io), D13 PT32B/VREF1_0 (io), E6 PT2A (io), E7 PT4B (io), E8 PT7B (io), E9 PT11B (io), E10 PT15B (io), E11 PT20B (io), E12 PT24B (io), F7 PT3B (io), F8 PT8B (io), F9 PT12B (io), F10 PT16B (io), F11 PT23B (io), F12 PT30A/TDQS30 (io), F13 PT30B (io), G7 PT6A/TDQS6 (io), G8 PT10B (io), G9 PT14B (io), G10 PT18B (io), G11 PT19B (io), G12 PT25B (io)
part B pins: A15 PT37A (io), A16 PT41A (io), A17 PT41B (io), A18 PT43A (io), A19 PT45B (io), A20 PT46A/TDQS46 (io), A21 PT51A (io), A22 PT52A (io), A23 PT57A (io), A24 PT57B (io), A25 PT59A (io), B15 PT37B (io), B16 PT40A (io), B17 PT50A (io), B18 PT42A (io), B19 PT45A (io), B20 PT47A (io), B21 PT54A/TDQS54 (io), B22 PT55A (io), B23 PT62B (io), B24 PT60A (io), B25 PT60B (io), B26 PT59B (io), C14 PT34A (io), C15 PT39A (io), C16 PT44A (io), C17 PT49B (io), C18 PT53A (io), C19 PT58A (io), C20 PT58B (io), C21 PT64A (io), C22 PT63A (io), C23 PT63B (io), C24 PT62A/TDQS62 (io), D14 PT35B/VREF2_1 (io), D15 PT40B (io), D16 PT44B (io), D17 PT49A (io), D18 PT53B (io), D19 PT56A (io), D20 PT61B (io), D21 PT64B (io), E13 PT35A/VREF1_1 (io), E14 PT36B (io), E15 PT39B (io), E16 PT46B (io), E17 PT50B (io), E18 PT56B (io), E19 PT61A (io), E20 PT48A (io), F14 PT34B (io), F15 PT38B (io), F16 PT43B (io), F17 PT48B (io), F18 PT52B (io), F19 PT55B (io), F20 PT65A (io), G14 PT36A (io), G15 PT38A/TDQS38 (io), G16 PT42B (io), G17 PT47B (io), G18 PT51B (io), G19 PT54B (io), G20 PT65B (io)
part C pins: C25 PR11A (io), C26 PR11B (io), D22 PR6A/RDQS6 (io), D23 PR2A/VREF2_2 (io), D24 PR8A (io), D25 PR14A/RDQS14 (io), D26 PR14B (io), E21 PR6B (io), E22 PR7B (io), E23 PR2B/VREF1_2 (io), E24 PR8B (io), E25 PR19A (io), E26 PR19B (io), F21 PR13B (io), F22 PR7A (io), F23 PR9A (io), F24 PR9B (io), F25 PR17B/RUM0_PLLC_FB_A (io), F26 PR20A (io), G21 PR15A (io), G22 PR13A (io), G23 PR12A (io), G24 PR12B (io), G25 PR17A/RUM0_PLLT_FB_A (io), G26 PR20B (io), H21 PR15B (io), H22 PR21A (io), H23 PR16B/RUM0_PLLC_IN_A (io), H24 PR16A/RUM0_PLLT_IN_A (io), H25 PR26B (io), H26 PR27A (io), J20 PR24A (io), J21 PR22B (io), J22 PR22A (io), J23 PR21B (io), J24 PR26A (io), J25 PR28A (io), J26 PR27B (io), K20 PR24B (io), K21 PR25B (io), K22 PR25A (io), K23 PR23B (io), K24 PR23A/RDQS23 (io), K25 PR28B (io), K26 PR34A/PCLKT2_0 (io), L21 PR31A/RDQS31 (io), L22 PR30B (io), L23 PR30A (io), L24 PR29A (io), L25 PR29B (io), L26 PR34B/PCLKC2_0 (io), M21 PR31B (io), M22 PR33B (io), M23 PR33A (io), M24 PR32A (io), M25 PR32B (io)
part D pins: AA21 PR62A (io), AA22 PR64A (io), AA23 PR64B (io), AA24 PR60B (io), AA25 PR58A (io), AA26 PR57A/RDQS57 (io), AB23 PR63B (io), AB24 PR63A (io), AB25 PR58B (io), AB26 PR57B (io), AC23 PR68B/VREF2_3 (io), AC24 PR68A/VREF1_3 (io), AC25 PR59B (io), AC26 PR59A (io), AD24 PR67B (io), AD25 PR67A (io), AD26 PR66A (io), AE26 PR66B (io), M26 PR39A (io), N21 PR38B (io), N22 PR37A (io), N23 PR37B (io), N24 PR36A (io), N25 PR36B (io), N26 PR39B (io), P21 PR38A (io), P22 PR40A/RDQS40 (io), P23 PR40B (io), P24 PR41A (io), P25 PR41B (io), P26 PR43A (io), R21 PR42B (io), R22 PR42A (io), R23 PR45A (io), R24 PR44A (io), R25 PR44B (io), R26 PR43B (io), T21 PR48A/RDQS48 (io), T22 PR46B (io), T23 PR46A (io), T24 PR45B (io), T25 PR47B (io), T26 PR47A (io), U21 PR48B (io), U22 PR49A (io), U23 PR49B (io), U24 PR50B (io), U25 PR50A (io), U26 PR51A (io), V26 PR51B (io), W21 PR55A/RLM0_PLLT_FB_A (io), W22 PR55B/RLM0_PLLC_FB_A (io), W23 PR56B/RLM0_PLLC_IN_A (io), W24 PR56A/RLM0_PLLT_IN_A (io), W25 PR53B/BUSY/SISPI (io), W26 PR53A/D7/SPID0 (io), Y19 PR65A/RDQS65 (io), Y20 PR65B (io), Y21 PR62B (io), Y22 PR61A (io), Y23 PR61B (io), Y24 PR60A (io), Y25 PR54B/DI/CSSPIN (io), Y26 PR54A/DOUT/CSON (io)
part E pins: AA13 PB34A/WRITEN (io), AA14 PB35B/CSN (io), AA15 PB42B (io), AA16 PB47B (io), AA17 PB48A (io), AA18 PB52B (io), AA19 PB54A/BDQS54 (io), AA20 PB55B (io), AB13 PB34B/CS1N (io), AB14 PB36B/D0/SPID7 (io), AB15 PB40B/D5/SPID2 (io), AB16 PB46B (io), AB17 PB51B (io), AB18 PB56B (io), AB19 PB59B (io), AB20 PB62B (io), AB21 PB62A/BDQS62 (io), AB22 PB65B (io), AC14 PB36A/VREF2_4 (io), AC15 PB38B/D3/SPID4 (io), AC16 PB44B (io), AC17 PB50B (io), AC18 PB56A (io), AC19 PB59A (io), AC20 PB60B (io), AC21 PB64B (io), AC22 PB65A (io), AD14 PB35A/VREF1_4 (io), AD15 PB38A/BDQS38 (io), AD16 PB46A/BDQS46 (io), AD17 PB43A (io), AD18 PB44A (io), AD19 PB58A (io), AD20 PB58B (io), AD21 PB60A (io), AD22 PB64A (io), AD23 PB63B (io), AE15 PB37B/D1/SPID6 (io), AE16 PB40A (io), AE17 PB41B/D6/SPID1 (io), AE18 PB45A (io), AE19 PB53A (io), AE20 PB53B (io), AE21 PB50A (io), AE22 PB52A (io), AE23 PB57B (io), AE24 PB63A (io), AE25 PB61B (io), AF15 PB37A/D2/SPID5 (io), AF16 PB39A (io), AF17 PB41A (io), AF18 PB45B (io), AF19 PB47A (io), AF20 PB49B (io), AF21 PB49A (io), AF22 PB51A (io), AF23 PB55A (io), AF24 PB57A (io), AF25 PB61A (io), Y14 PB39B/D4/SPID3 (io), Y15 PB42A (io), Y16 PB43B (io), Y17 PB48B (io), Y18 PB54B (io)
part F pins: AA6 PB2B (io), AA7 PB4B (io), AA8 PB7B (io), AA9 PB14B (io), AA10 PB20B (io), AA11 PB26A (io), AA12 PB30A/BDQS30 (io), AB6 PB2A (io), AB7 PB4A (io), AB8 PB6A/BDQS6 (io), AB9 PB11B (io), AB10 PB18B (io), AB11 PB24B (io), AB12 PB30B (io), AC5 PB5B (io), AC6 PB5A (io), AC7 PB3A (io), AC8 PB6B (io), AC9 PB10B (io), AC10 PB16B (io), AC11 PB23B (io), AC12 PB29B (io), AC13 PB32B/VREF1_5 (io), AD4 PB9B (io), AD5 PB9A (io), AD6 PB16A (io), AD7 PB20A (io), AD8 PB10A (io), AD9 PB12B (io), AD10 PB19B (io), AD11 PB22A/BDQS22 (io), AD12 PB29A (io), AD13 PB32A/VREF2_5 (io), AE2 PB7A (io), AE3 PB11A (io), AE4 PB13A (io), AE5 PB14A/BDQS14 (io), AE6 PB17B (io), AE7 PB19A (io), AE8 PB23A (io), AE9 PB25B (io), AE10 PB25A (io), AE11 PB27A (io), AE12 PB28B (io), AE13 PB31A (io), AE14 PB33B/PCLKC5_0 (io), AF2 PB8A (io), AF3 PB12A (io), AF4 PB13B (io), AF5 PB15A (io), AF6 PB17A (io), AF7 PB18A (io), AF8 PB21A (io), AF9 PB21B (io), AF10 PB24A (io), AF11 PB27B (io), AF12 PB28A (io), AF13 PB31B (io), AF14 PB33A/PCLKT5_0 (io), Y8 PB3B (io), Y9 PB8B (io), Y10 PB15B (io), Y11 PB22B (io), Y12 PB26B (io)
part G pins: AA1 PL57A/LDQS57 (io), AA2 PL60A (io), AA3 PL60B (io), AA4 PL63A (io), AA5 PL65A/LDQS65 (io), AB1 PL57B (io), AB2 PL59B (io), AB3 PL63B (io), AB4 PL68A/VREF1_6 (io), AB5 PL65B (io), AC1 PL59A (io), AC2 PL64A (io), AC3 PL64B (io), AC4 PL68B/VREF2_6 (io), AD1 PL67B (io), AD2 PL66B (io), AD3 PL66A (io), AE1 PL67A (io), L6 PL37B (io), L7 PL37A (io), M5 PL41A (io), M6 PL41B (io), N4 PL38A (io), N5 PL38B (io), N6 PL44A (io), P1 PL36A (io), P2 PL36B (io), P3 PL40B (io), P4 PL40A/LDQS40 (io), P5 PL44B (io), P6 PL45A (io), R1 PL39A (io), R2 PL39B (io), R3 PL43B (io), R4 PL43A (io), R5 PL45B (io), R6 PL48A/LDQS48 (io), T1 PL42A (io), T2 PL42B (io), T3 PL47A (io), T4 PL47B (io), T5 PL48B (io), T6 PL49A (io), U1 PL46A (io), U2 PL46B (io), U3 PL50A (io), U4 PL50B (io), U5 PL49B (io), V1 PL51A (io), V2 PL51B (io), V6 PL54A/LLM0_PLLT_FB_A (io), W1 PL53A/LLM0_PLLT_IN_A (io), W2 PL53B/LLM0_PLLC_IN_A (io), W3 PL56A (io), W4 PL56B (io), W5 PL61A (io), W6 PL54B/LLM0_PLLC_FB_A (io), W7 PL62B (io), Y1 PL55A (io), Y2 PL55B (io), Y3 PL58B (io), Y4 PL58A (io), Y5 PL61B (io), Y6 PL62A (io)
part H pins: B1 PL10A (io), B2 PL9B (io), C1 PL10B (io), C2 PL9A (io), C3 PL8A (io), D1 PL14A/LDQS14 (io), D2 PL12A (io), D3 PL8B (io), D5 PL6B (io), E1 PL14B (io), E2 PL12B (io), E3 PL2A/VREF2_7 (io), E4 PL2B/VREF1_7 (io), E5 PL6A/LDQS6 (io), F1 PL26A (io), F2 PL15A (io), F3 PL11A (io), F4 PL7A (io), F5 PL7B (io), F6 PL16A/LUM0_PLLT_IN_A (io), G1 PL26B (io), G2 PL15B (io), G3 PL11B (io), G4 PL17B/LUM0_PLLC_FB_A (io), G5 PL20A (io), G6 PL16B/LUM0_PLLC_IN_A (io), H1 PL27A (io), H2 PL22A (io), H3 PL21A (io), H4 PL17A/LUM0_PLLT_FB_A (io), H5 PL20B (io), H6 PL19A (io), J1 PL27B (io), J2 PL22B (io), J3 PL21B (io), J4 PL23A/LDQS23 (io), J5 PL23B (io), J6 PL25A (io), J7 PL19B (io), K1 PL28B (io), K2 PL28A (io), K3 PL29A (io), K4 PL24A (io), K5 PL24B (io), K6 PL25B (io), L1 PL30B (io), L2 PL30A (io), L3 PL29B (io), L4 PL33A (io), L5 PL33B (io), M1 PL32A (io), M2 PL32B (io), M3 PL31A/LDQS31 (io), M4 PL31B (io), N1 PL34B/PCLKC7_0 (io), N2 PL34A/PCLKT7_0 (io)
part I pins: N3 XRES, U7 TCK (in), U20 DONE (io), V3 TDO (out), V4 TDI (in), V5 TMS (in), V20 CCLK (io), V21 CFG1 (in), V22 PROGRAMN (in), V23 CFG0 (in), V24 CFG2 (in), V25 INITN (io)
part J pins: G13 VCCAUX (power), H7 VCCAUX (power), H8 VCC (power), H9 VCC (power), H10 VCC (power), H11 VCC (power), H12 VCCIO0 (power), H13 VCCIO0 (power), H14 VCCIO1 (power), H15 VCCIO1 (power), H16 VCC (power), H17 VCC (power), H18 VCC (power), H19 VCC (power), H20 VCCAUX (power), J8 VCCAUX (power), J9 VCC (power), J10 VCCIO0 (power), J11 VCCIO0 (power), J12 VCCIO0 (power), J13 VCCIO0 (power), J14 VCCIO1 (power), J15 VCCIO1 (power), J16 VCCIO1 (power), J17 VCCIO1 (power), J18 VCC (power), J19 VCCAUX (power), K7 VCCAUX (power), K8 VCC (power), K9 VCCIO7 (power), K17 VCCIO2 (power), K18 VCCIO2 (power), L9 VCCIO7 (power), L18 VCCIO2 (power), L19 VCC (power), L20 VCCAUX (power), M7 VCCAUX (power), M8 VCCIO7 (power), M9 VCCIO7 (power), M18 VCCIO2 (power), M19 VCC (power), M20 VCCAUX (power), N7 VCC (power), N8 VCCIO7 (power), N9 VCCIO7 (power), N18 VCCIO2 (power), N19 VCCIO2 (power), N20 VCCAUX (power), P7 VCCAUX (power), P8 VCCIO6 (power), P9 VCCIO6 (power), P18 VCCIO3 (power), P19 VCCIO3 (power), P20 VCCAUX (power), R7 VCC (power), R8 VCCIO6 (power), R9 VCCIO6 (power), R18 VCCIO3 (power), R19 VCCIO3 (power), R20 VCC (power), T7 VCCAUX (power), T8 VCCAUX (power), T9 VCCIO6 (power), T18 VCCIO3 (power), T19 VCC (power), T20 VCCAUX (power), U6 VCCJ (power), U9 VCCIO6 (power), U18 VCCIO3 (power), V7 VCCAUX (power), V8 VCC (power), V9 VCC (power), V10 VCCIO5 (power), V11 VCCIO5 (power), V12 VCCIO5 (power), V13 VCCIO5 (power), V14 VCCIO4 (power), V15 VCCIO4 (power), V16 VCCIO4 (power), V17 VCCIO4 (power), V18 VCC (power), V19 VCCAUX (power), W8 VCC (power), W9 VCC (power), W10 VCC (power), W11 VCC (power), W12 VCCIO5 (power), W13 VCCIO5 (power), W14 VCCIO4 (power), W15 VCCIO4 (power), W16 VCC (power), W17 VCC (power), W18 VCC (power), W19 VCC (power), W20 VCCAUX (power), Y7 VCCAUX (power), Y13 VCCAUX (power)
part K pins: K10 GND (power), K11 GND (power), K12 GND (power), K13 GND (power), K14 GND (power), K15 GND (power), K16 GND (power), L10 GND (power), L11 GND (power), L12 GND (power), L13 GND (power), L14 GND (power), L15 GND (power), L16 GND (power), L17 GND (power), M10 GND (power), M11 GND (power), M12 GND (power), M13 GND (power), M14 GND (power), M15 GND (power), M16 GND (power), M17 GND (power), N10 GND (power), N11 GND (power), N12 GND (power), N13 GND (power), N14 GND (power), N15 GND (power), N16 GND (power), N17 GND (power), P10 GND (power), P11 GND (power), P12 GND (power), P13 GND (power), P14 GND (power), P15 GND (power), P16 GND (power), P17 GND (power), R10 GND (power), R11 GND (power), R12 GND (power), R13 GND (power), R14 GND (power), R15 GND (power), R16 GND (power), R17 GND (power), T10 GND (power), T11 GND (power), T12 GND (power), T13 GND (power), T14 GND (power), T15 GND (power), T16 GND (power), T17 GND (power), U10 GND (power), U11 GND (power), U12 GND (power), U13 GND (power), U14 GND (power), U15 GND (power), U16 GND (power), U17 GND (power)
part L pins: K19 VCCPLL (power), L8 VCCPLL (power), U8 VCCPLL (power), U19 VCCPLL (power)
part A text: BANK 0
part B text: BANK 1
part C text: BANK 2
part D text: BANK 3
part E text: BANK 4
part F text: BANK 5
part G text: BANK 6
part H text: BANK 7

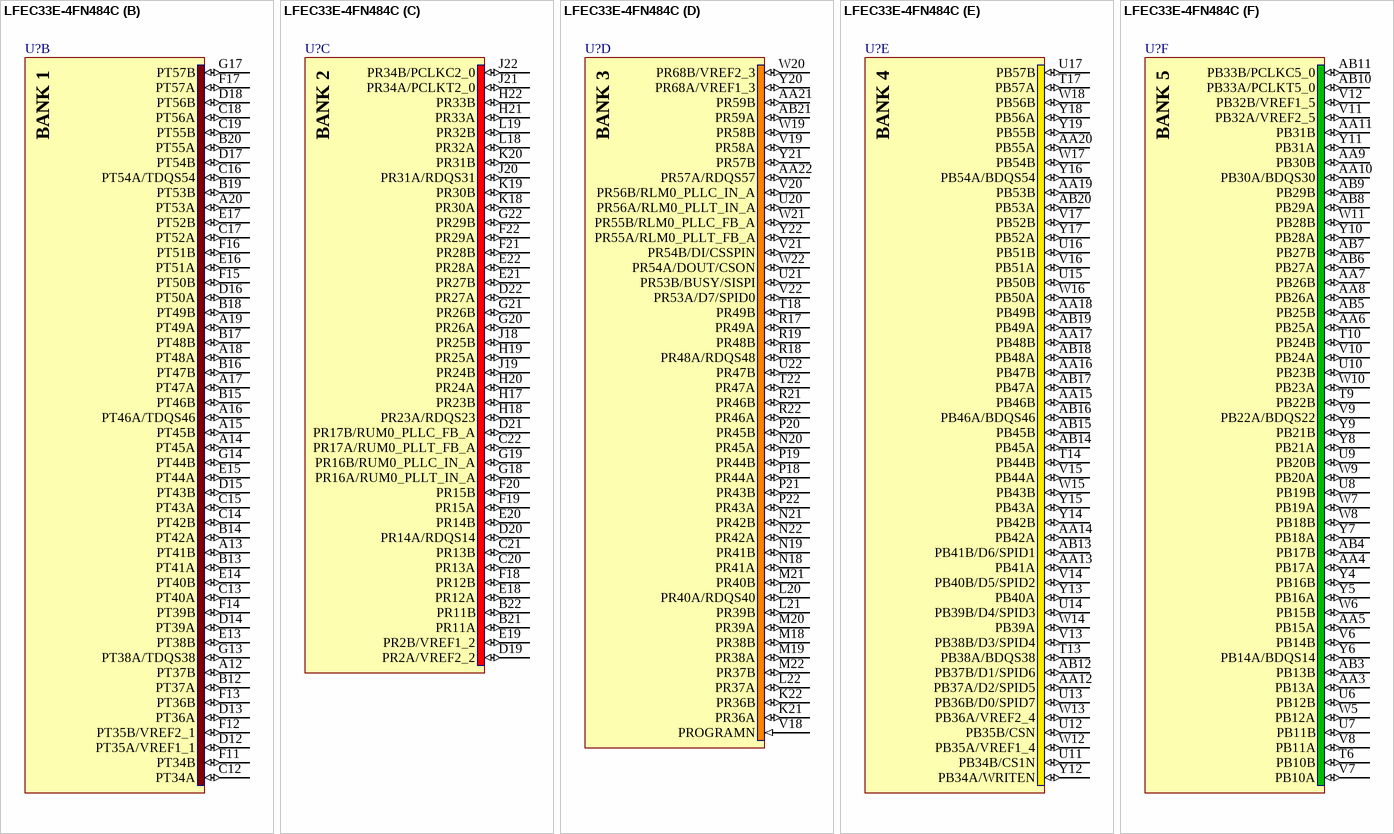
[diagram p215: symbol LFEC33E-4FN484C]

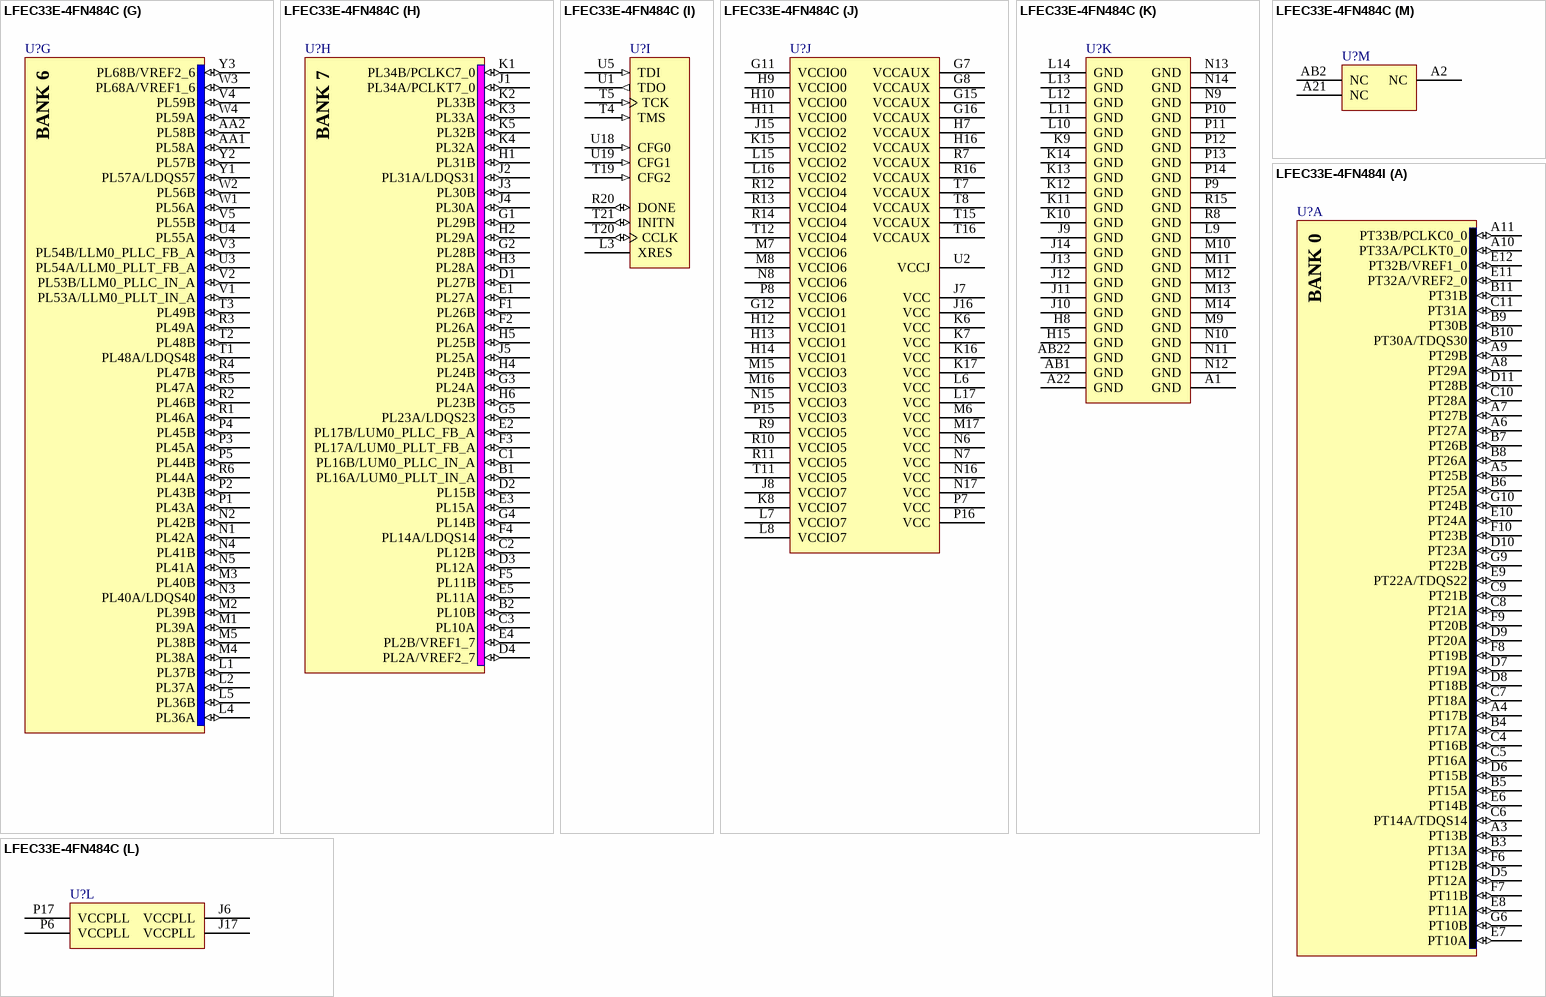
[diagram p216: symbols LFEC33E-4FN484C to LFEC33E-4FN484I]

## LFEC33E-4FN484C
designator U?
EC 1.2V FPGA, 360 I/Os, 4 PLLs, 32.8K LUTs, 484-Pin fpBGA, Speed Grade 4, Commercial Grade, Pb-Free; DatasheetVersion: ver2.2, Mar-2006; PackageVersion: ver02.8, Jul-2011; PackageReference: fpBGA484; PackageDescription: 484-Ball Fine Pitch Ball Grid Array (fpBGA484); Code_IPC: BGA100P22X22-484; ComponentLink1Description: Manufacturer URL; ComponentLink1URL: http://www.latticesemi.com/; ComponentLink2Description: Datasheet; ComponentLink2URL: http://www.latticesemi.com/lit/docs/datasheets/fpga/ecp_ec_datasheet.pdf; ComponentLink3Description: Package Specification; ComponentLink3URL: http://www.latticesemi.com/lit/docs/package/pkg.pdf
footprint fpBGA484 (BGA, 484-Leads, Body 23x23mm, Pitch 1mm)
part A pins: A3 PT13B (io), A4 PT17B (io), A5 PT25B (io), A6 PT27A (io), A7 PT27B (io), A8 PT29A (io), A9 PT29B (io), A10 PT33A/PCLKT0_0 (io), A11 PT33B/PCLKC0_0 (io), B3 PT13A (io), B4 PT17A (io), B5 PT15A (io), B6 PT25A (io), B7 PT26B (io), B8 PT26A (io), B9 PT30B (io), B10 PT30A/TDQS30 (io), B11 PT31B (io), C4 PT16B (io), C5 PT16A (io), C6 PT14A/TDQS14 (io), C7 PT18A (io), C8 PT21A (io), C9 PT21B (io), C10 PT28A (io), C11 PT31A (io), D5 PT12A (io), D6 PT15B (io), D7 PT19A (io), D8 PT18B (io), D9 PT20A (io), D10 PT23A (io), D11 PT28B (io), E6 PT14B (io), E7 PT10A (io), E8 PT11A (io), E9 PT22A/TDQS22 (io), E10 PT24A (io), E11 PT32A/VREF2_0 (io), E12 PT32B/VREF1_0 (io), F6 PT12B (io), F7 PT11B (io), F8 PT19B (io), F9 PT20B (io), F10 PT23B (io), G6 PT10B (io), G9 PT22B (io), G10 PT24B (io)
part B pins: A12 PT37B (io), A13 PT41B (io), A14 PT45A (io), A15 PT45B (io), A16 PT46A/TDQS46 (io), A17 PT47A (io), A18 PT48A (io), A19 PT49A (io), A20 PT53A (io), B12 PT37A (io), B13 PT41A (io), B14 PT42A (io), B15 PT46B (io), B16 PT47B (io), B17 PT48B (io), B18 PT49B (io), B19 PT53B (io), B20 PT55A (io), C12 PT34A (io), C13 PT40A (io), C14 PT42B (io), C15 PT43A (io), C16 PT54A/TDQS54 (io), C17 PT52A (io), C18 PT56A (io), C19 PT55B (io), D12 PT35A/VREF1_1 (io), D13 PT36A (io), D14 PT39A (io), D15 PT43B (io), D16 PT50A (io), D17 PT54B (io), D18 PT56B (io), E13 PT38B (io), E14 PT40B (io), E15 PT44A (io), E16 PT51A (io), E17 PT52B (io), F11 PT34B (io), F12 PT35B/VREF2_1 (io), F13 PT36B (io), F14 PT39B (io), F15 PT50B (io), F16 PT51B (io), F17 PT57A (io), G13 PT38A/TDQS38 (io), G14 PT44B (io), G17 PT57B (io)
part C pins: B21 PR11A (io), B22 PR11B (io), C20 PR13A (io), C21 PR13B (io), C22 PR17A/RUM0_PLLT_FB_A (io), D19 PR2A/VREF2_2 (io), D20 PR14A/RDQS14 (io), D21 PR17B/RUM0_PLLC_FB_A (io), D22 PR27A (io), E18 PR12A (io), E19 PR2B/VREF1_2 (io), E20 PR14B (io), E21 PR27B (io), E22 PR28A (io), F18 PR12B (io), F19 PR15A (io), F20 PR15B (io), F21 PR28B (io), F22 PR29A (io), G18 PR16A/RUM0_PLLT_IN_A (io), G19 PR16B/RUM0_PLLC_IN_A (io), G20 PR26A (io), G21 PR26B (io), G22 PR29B (io), H17 PR23B (io), H18 PR23A/RDQS23 (io), H19 PR25A (io), H20 PR24A (io), H21 PR33A (io), H22 PR33B (io), J18 PR25B (io), J19 PR24B (io), J20 PR31A/RDQS31 (io), J21 PR34A/PCLKT2_0 (io), J22 PR34B/PCLKC2_0 (io), K18 PR30A (io), K19 PR30B (io), K20 PR31B (io), L18 PR32A (io), L19 PR32B (io)
part D pins: AA21 PR59B (io), AA22 PR57A/RDQS57 (io), AB21 PR59A (io), K21 PR36A (io), K22 PR36B (io), L20 PR40A/RDQS40 (io), L21 PR39B (io), L22 PR37A (io), M18 PR38B (io), M19 PR38A (io), M20 PR39A (io), M21 PR40B (io), M22 PR37B (io), N18 PR41A (io), N19 PR41B (io), N20 PR45A (io), N21 PR42B (io), N22 PR42A (io), P18 PR44A (io), P19 PR44B (io), P20 PR45B (io), P21 PR43B (io), P22 PR43A (io), R17 PR49A (io), R18 PR48A/RDQS48 (io), R19 PR48B (io), R21 PR46B (io), R22 PR46A (io), T18 PR49B (io), T22 PR47A (io), U20 PR56A/RLM0_PLLT_IN_A (io), U21 PR53B/BUSY/SISPI (io), U22 PR47B (io), V18 PROGRAMN (in), V19 PR58A (io), V20 PR56B/RLM0_PLLC_IN_A (io), V21 PR54B/DI/CSSPIN (io), V22 PR53A/D7/SPID0 (io), W19 PR58B (io), W20 PR68B/VREF2_3 (io), W21 PR55B/RLM0_PLLC_FB_A (io), W22 PR54A/DOUT/CSON (io), Y20 PR68A/VREF1_3 (io), Y21 PR57B (io), Y22 PR55A/RLM0_PLLT_FB_A (io)
part E pins: AA12 PB37A/D2/SPID5 (io), AA13 PB41A (io), AA14 PB42A (io), AA15 PB46B (io), AA16 PB47B (io), AA17 PB48B (io), AA18 PB49B (io), AA19 PB53B (io), AA20 PB55A (io), AB12 PB37B/D1/SPID6 (io), AB13 PB41B/D6/SPID1 (io), AB14 PB45A (io), AB15 PB45B (io), AB16 PB46A/BDQS46 (io), AB17 PB47A (io), AB18 PB48A (io), AB19 PB49A (io), AB20 PB53A (io), T13 PB38A/BDQS38 (io), T14 PB44B (io), T17 PB57A (io), U11 PB34B/CS1N (io), U12 PB35B/CSN (io), U13 PB36B/D0/SPID7 (io), U14 PB39B/D4/SPID3 (io), U15 PB50B (io), U16 PB51B (io), U17 PB57B (io), V13 PB38B/D3/SPID4 (io), V14 PB40B/D5/SPID2 (io), V15 PB44A (io), V16 PB51A (io), V17 PB52B (io), W12 PB35A/VREF1_4 (io), W13 PB36A/VREF2_4 (io), W14 PB39A (io), W15 PB43B (io), W16 PB50A (io), W17 PB54B (io), W18 PB56B (io), Y12 PB34A/WRITEN (io), Y13 PB40A (io), Y14 PB42B (io), Y15 PB43A (io), Y16 PB54A/BDQS54 (io), Y17 PB52A (io), Y18 PB56A (io), Y19 PB55B (io)
part F pins: AA3 PB13A (io), AA4 PB17A (io), AA5 PB15A (io), AA6 PB25A (io), AA7 PB26B (io), AA8 PB26A (io), AA9 PB30B (io), AA10 PB30A/BDQS30 (io), AA11 PB31B (io), AB3 PB13B (io), AB4 PB17B (io), AB5 PB25B (io), AB6 PB27A (io), AB7 PB27B (io), AB8 PB29A (io), AB9 PB29B (io), AB10 PB33A/PCLKT5_0 (io), AB11 PB33B/PCLKC5_0 (io), T6 PB10B (io), T9 PB22B (io), T10 PB24B (io), U6 PB12B (io), U7 PB11B (io), U8 PB19B (io), U9 PB20B (io), U10 PB23B (io), V6 PB14B (io), V7 PB10A (io), V8 PB11A (io), V9 PB22A/BDQS22 (io), V10 PB24A (io), V11 PB32A/VREF2_5 (io), V12 PB32B/VREF1_5 (io), W5 PB12A (io), W6 PB15B (io), W7 PB19A (io), W8 PB18B (io), W9 PB20A (io), W10 PB23A (io), W11 PB28B (io), Y4 PB16B (io), Y5 PB16A (io), Y6 PB14A/BDQS14 (io), Y7 PB18A (io), Y8 PB21A (io), Y9 PB21B (io), Y10 PB28A (io), Y11 PB31A (io)
part G pins: AA1 PL58A (io), AA2 PL58B (io), L1 PL37B (io), L2 PL37A (io), L4 PL36A (io), L5 PL36B (io), M1 PL39A (io), M2 PL39B (io), M3 PL40B (io), M4 PL38A (io), M5 PL38B (io), N1 PL42A (io), N2 PL42B (io), N3 PL40A/LDQS40 (io), N4 PL41B (io), N5 PL41A (io), P1 PL43A (io), P2 PL43B (io), P3 PL45A (io), P4 PL45B (io), P5 PL44B (io), R1 PL46A (io), R2 PL46B (io), R3 PL49A (io), R4 PL47B (io), R5 PL47A (io), R6 PL44A (io), T1 PL48A/LDQS48 (io), T2 PL48B (io), T3 PL49B (io), U3 PL54A/LLM0_PLLT_FB_A (io), U4 PL55A (io), V1 PL53A/LLM0_PLLT_IN_A (io), V2 PL53B/LLM0_PLLC_IN_A (io), V3 PL54B/LLM0_PLLC_FB_A (io), V4 PL59B (io), V5 PL55B (io), W1 PL56A (io), W2 PL56B (io), W3 PL68A/VREF1_6 (io), W4 PL59A (io), Y1 PL57A/LDQS57 (io), Y2 PL57B (io), Y3 PL68B/VREF2_6 (io)
part H pins: B1 PL16A/LUM0_PLLT_IN_A (io), B2 PL10B (io), C1 PL16B/LUM0_PLLC_IN_A (io), C2 PL12B (io), C3 PL10A (io), D1 PL27B (io), D2 PL15B (io), D3 PL12A (io), D4 PL2A/VREF2_7 (io), E1 PL27A (io), E2 PL17B/LUM0_PLLC_FB_A (io), E3 PL15A (io), E4 PL2B/VREF1_7 (io), E5 PL11A (io), F1 PL26B (io), F2 PL26A (io), F3 PL17A/LUM0_PLLT_FB_A (io), F4 PL14A/LDQS14 (io), F5 PL11B (io), G1 PL29B (io), G2 PL28B (io), G3 PL24A (io), G4 PL14B (io), G5 PL23A/LDQS23 (io), H1 PL31B (io), H2 PL29A (io), H3 PL28A (io), H4 PL24B (io), H5 PL25B (io), H6 PL23B (io), J1 PL34A/PCLKT7_0 (io), J2 PL31A/LDQS31 (io), J3 PL30B (io), J4 PL30A (io), J5 PL25A (io), K1 PL34B/PCLKC7_0 (io), K2 PL33B (io), K3 PL33A (io), K4 PL32A (io), K5 PL32B (io)
part I pins: L3 XRES, R20 DONE (io), T4 TMS (in), T5 TCK (in), T19 CFG2 (in), T20 CCLK (io), T21 INITN (io), U1 TDO (out), U5 TDI (in), U18 CFG0 (in), U19 CFG1 (in)
part J pins: G7 VCCAUX (power), G8 VCCAUX (power), G11 VCCIO0 (power), G12 VCCIO1 (power), G15 VCCAUX (power), G16 VCCAUX (power), H7 VCCAUX (power), H9 VCCIO0 (power), H10 VCCIO0 (power), H11 VCCIO0 (power), H12 VCCIO1 (power), H13 VCCIO1 (power), H14 VCCIO1 (power), H16 VCCAUX (power), J7 VCC (power), J8 VCCIO7 (power), J15 VCCIO2 (power), J16 VCC (power), K6 VCC (power), K7 VCC (power), K8 VCCIO7 (power), K15 VCCIO2 (power), K16 VCC (power), K17 VCC (power), L6 VCC (power), L7 VCCIO7 (power), L8 VCCIO7 (power), L15 VCCIO2 (power), L16 VCCIO2 (power), L17 VCC (power), M6 VCC (power), M7 VCCIO6 (power), M8 VCCIO6 (power), M15 VCCIO3 (power), M16 VCCIO3 (power), M17 VCC (power), N6 VCC (power), N7 VCC (power), N8 VCCIO6 (power), N15 VCCIO3 (power), N16 VCC (power), N17 VCC (power), P7 VCC (power), P8 VCCIO6 (power), P15 VCCIO3 (power), P16 VCC (power), R7 VCCAUX (power), R9 VCCIO5 (power), R10 VCCIO5 (power), R11 VCCIO5 (power), R12 VCCIO4 (power), R13 VCCIO4 (power), R14 VCCIO4 (power), R16 VCCAUX (power), T7 VCCAUX (power), T8 VCCAUX (power), T11 VCCIO5 (power), T12 VCCIO4 (power), T15 VCCAUX (power), T16 VCCAUX (power), U2 VCCJ (power)
part K pins: A1 GND (power), A22 GND (power), AB1 GND (power), AB22 GND (power), H8 GND (power), H15 GND (power), J9 GND (power), J10 GND (power), J11 GND (power), J12 GND (power), J13 GND (power), J14 GND (power), K9 GND (power), K10 GND (power), K11 GND (power), K12 GND (power), K13 GND (power), K14 GND (power), L9 GND (power), L10 GND (power), L11 GND (power), L12 GND (power), L13 GND (power), L14 GND (power), M9 GND (power), M10 GND (power), M11 GND (power), M12 GND (power), M13 GND (power), M14 GND (power), N9 GND (power), N10 GND (power), N11 GND (power), N12 GND (power), N13 GND (power), N14 GND (power), P9 GND (power), P10 GND (power), P11 GND (power), P12 GND (power), P13 GND (power), P14 GND (power), R8 GND (power), R15 GND (power)
part L pins: J6 VCCPLL (power), J17 VCCPLL (power), P6 VCCPLL (power), P17 VCCPLL (power)
part M pins: A2 NC, A21 NC, AB2 NC
part A text: BANK 0
part B text: BANK 1
part C text: BANK 2
part D text: BANK 3
part E text: BANK 4
part F text: BANK 5
part G text: BANK 6
part H text: BANK 7

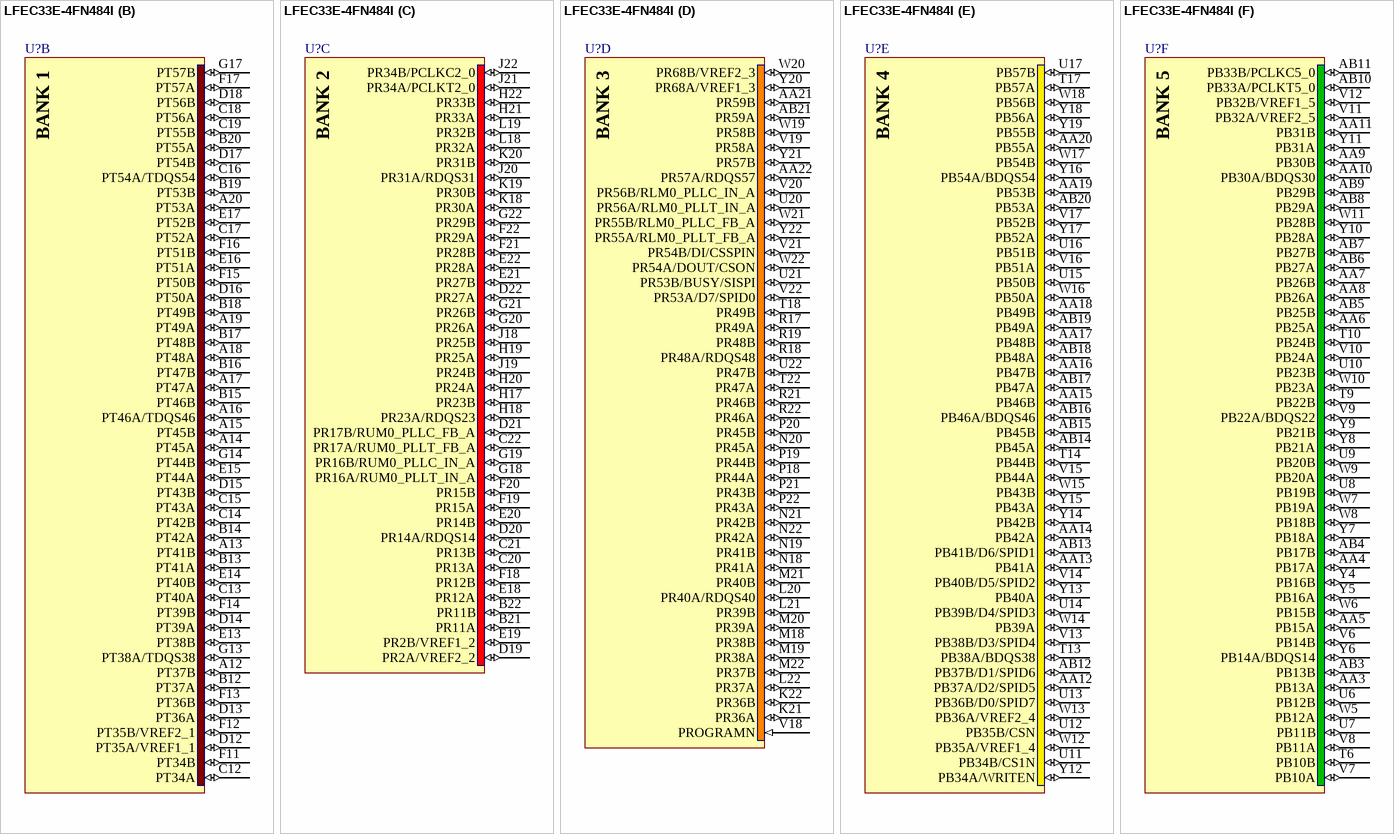
[diagram p217: symbol LFEC33E-4FN484I]

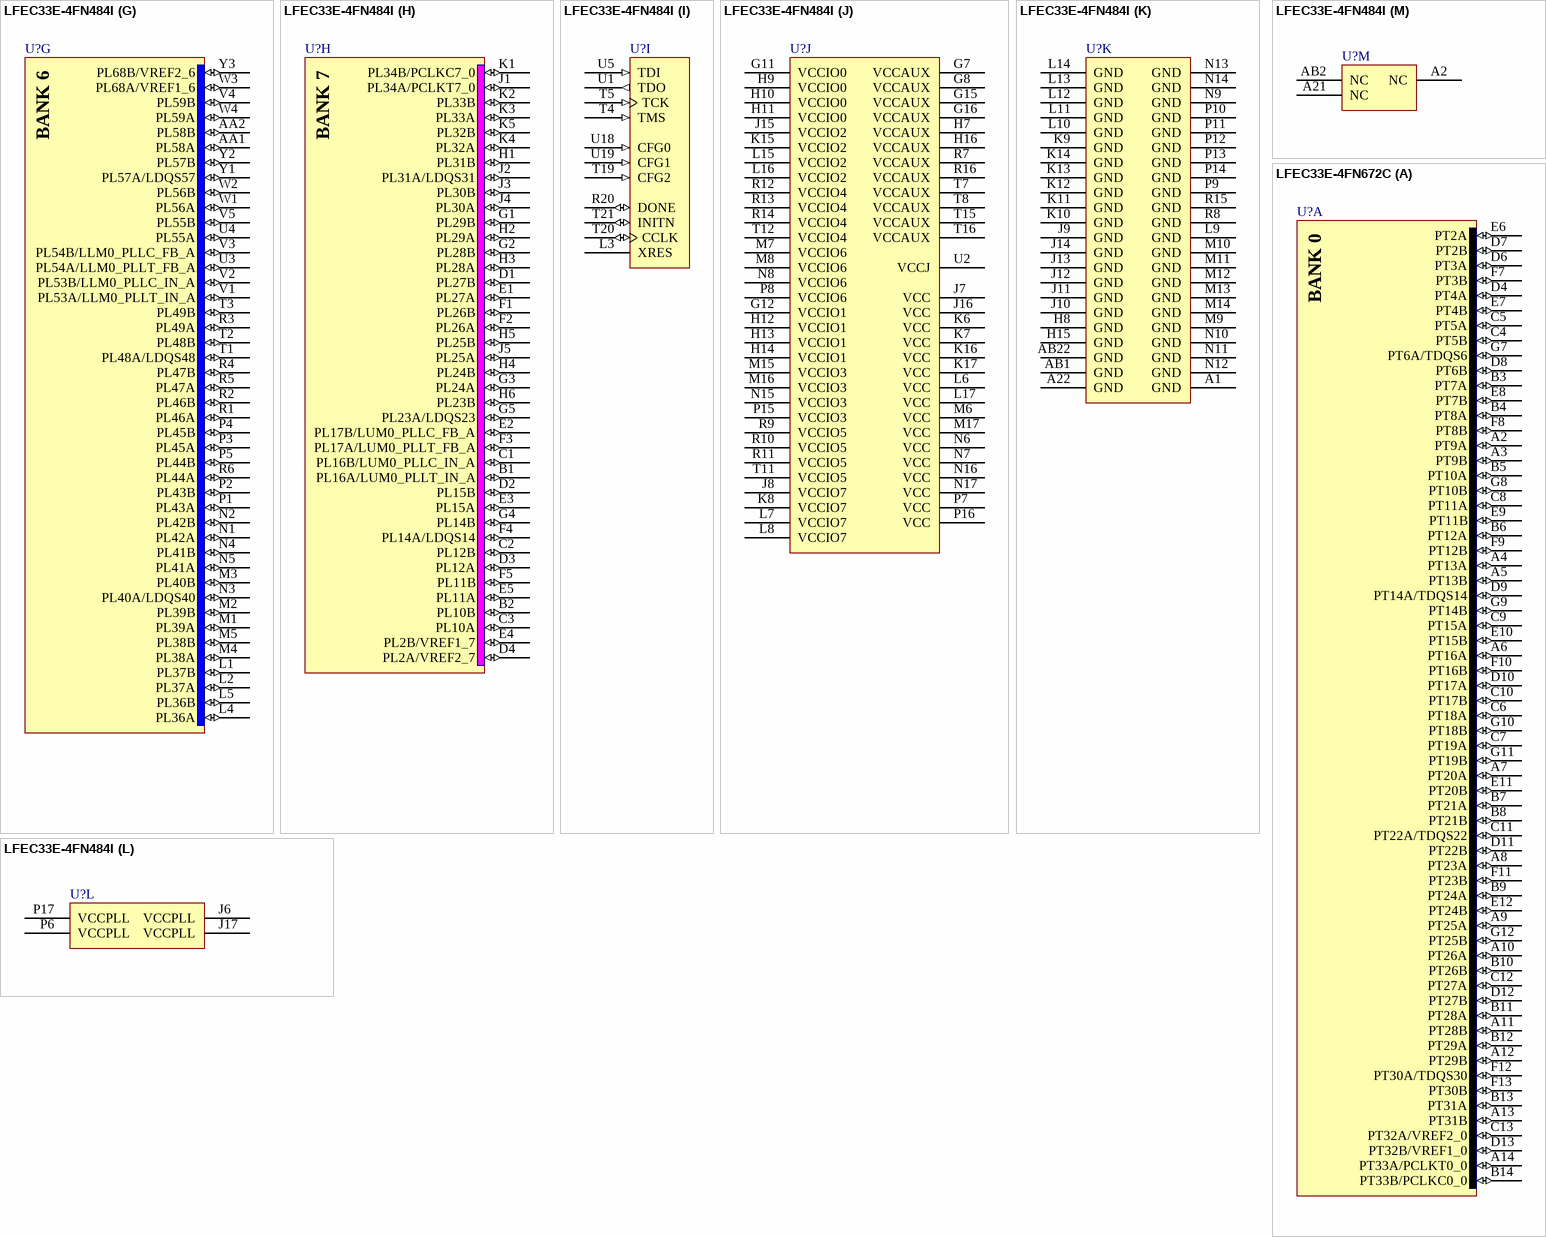
[diagram p218: symbols LFEC33E-4FN484I to LFEC33E-4FN672C]